# Altium integrated library Xilinx Virtex.IntLib: 240 symbols (part 28 of 35)
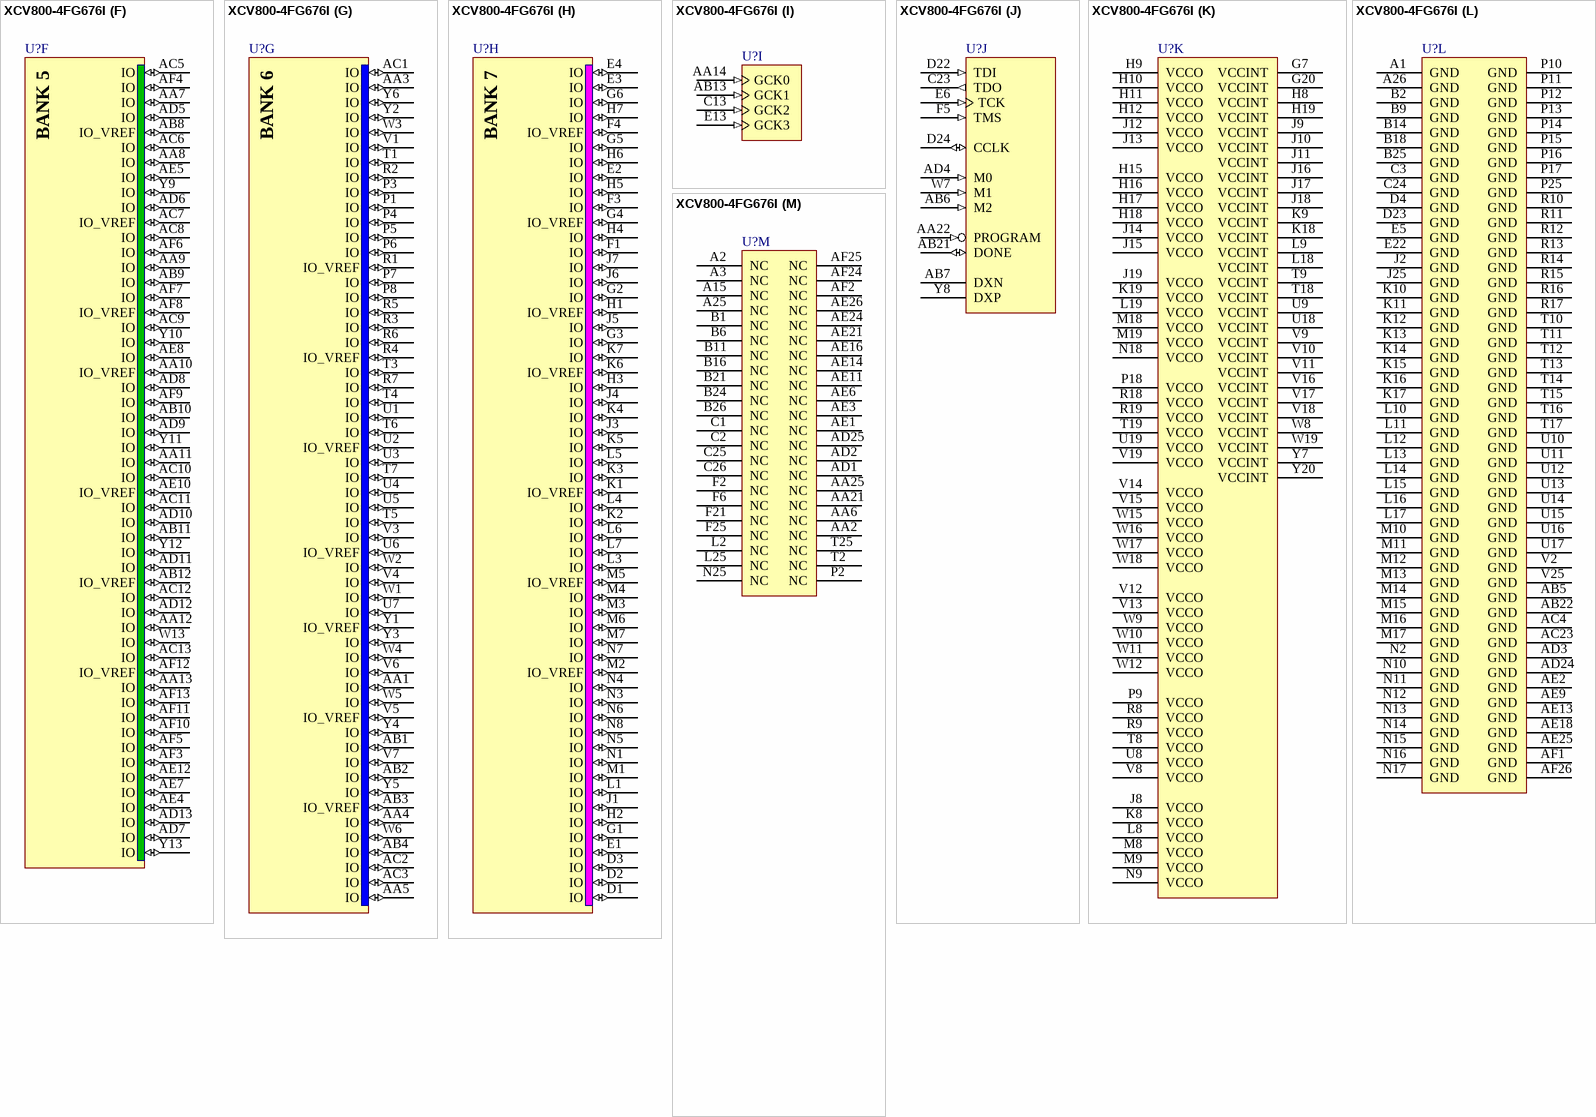
[diagram p248: symbol XCV800-4FG676I]

## XCV800-4FG676I
designator U?
Virtex 2.5V FPGA, 444 User I/Os, 676-Ball FBGA, Speed Grade 4, Industrial Grade; Note: Solder pads are defined by the copper i.e. non-soldermask defined (NSMD); DatasheetVersion: Dec-2002; PackageVersion: ver1.2.1, Apr-2005; PackageReference: FG676; PackageDescription: 676-Ball Fine Pitch Ball Grid Array (FG676); Code_JEDEC: MS-034-AAL-1; Code_IPC: BGA100P26X26-676; ComponentLink1Description: Manufacturer URL; ComponentLink1URL: http://www.xilinx.com/; ComponentLink2Description: Virtex Datasheet; ComponentLink2URL: http://www.xilinx.com/support/documentation/data_sheets/ds003.pdf; ComponentLink3Description: FG676 Package Drawing; ComponentLink3URL: http://www.xilinx.com/support/documentation/package_specs/fg676.pdf; ComponentLink4Description: Virtex Documents; ComponentLink4URL: http://www.xilinx.com/support/documentation/virtex.htm
footprint FG676 (BGA, 676-Leads, Body 27x27mm, Pitch 1mm)
part A pins: A4 IO (io), A5 IO (io), A6 IO (io), A7 IO (io), A8 IO (io), A9 IO (io), A10 IO (io), A11 IO (io), A12 IO_VREF (io), B3 IO (io), B4 IO (io), B5 IO (io), B7 IO_VREF (io), B8 IO (io), B10 IO_VREF (io), B12 IO (io), B13 IO (io), C4 IO (io), C5 IO (io), C6 IO (io), C7 IO (io), C8 IO (io), C9 IO (io), C10 IO (io), C11 IO_VREF (io), C12 IO (io), D5 IO (io), D6 IO_VREF (io), D7 IO (io), D8 IO (io), D9 IO (io), D10 IO (io), D11 IO (io), D12 IO (io), D13 IO (io), E7 IO (io), E8 IO_VREF (io), E9 IO (io), E10 IO (io), E11 IO (io), E12 IO (io), F7 IO (io), F8 IO (io), F9 IO (io), F10 IO (io), F11 IO (io), F12 IO (io), G8 IO (io), G9 IO (io), G10 IO_VREF (io), G11 IO (io), G12 IO (io), G13 IO (io), H13 IO (io)
part B pins: A13 IO (io), A14 IO_VREF (io), A16 IO (io), A17 IO_VREF (io), A18 IO (io), A19 IO (io), A20 IO (io), A21 IO (io), A22 IO (io), A23 IO (io), A24 IO (io), B15 IO (io), B17 IO (io), B19 IO_VREF (io), B20 IO (io), B22 IO (io), B23 IO (io), C14 IO (io), C15 IO (io), C16 IO (io), C17 IO (io), C18 IO (io), C19 IO (io), C20 IO_VREF (io), C21 IO_VREF (io), C22 IO_WRITE (io), D14 IO (io), D15 IO_VREF (io), D16 IO (io), D17 IO (io), D18 IO (io), D19 IO (io), D20 IO (io), D21 IO (io), E14 IO (io), E15 IO (io), E16 IO (io), E17 IO (io), E18 IO (io), E19 IO (io), E20 IO (io), E21 IO_CS (io), F13 IO (io), F14 IO (io), F15 IO (io), F16 IO (io), F17 IO (io), F18 IO (io), F19 IO (io), G14 IO (io), G15 IO (io), G16 IO_VREF (io), G17 IO (io), G18 IO (io), G19 IO (io), H14 IO (io)
part C pins: D25 IO (io), D26 IO (io), E23 IO_DOUT_BUSY (io), E24 IO (io), E25 IO (io), E26 IO (io), F20 IO (io), F22 IO_DIN_D0 (io), F23 IO (io), F24 IO_VREF (io), F26 IO (io), G21 IO (io), G22 IO (io), G23 IO (io), G24 IO (io), G25 IO (io), G26 IO_VREF (io), H20 IO (io), H21 IO (io), H22 IO (io), H23 IO_VREF (io), H24 IO (io), H25 IO (io), H26 IO (io), J20 IO (io), J21 IO (io), J22 IO (io), J23 IO (io), J24 IO (io), J26 IO (io), K20 IO_VREF (io), K21 IO (io), K22 IO_D2 (io), K23 IO (io), K24 IO_D1 (io), K25 IO_VREF (io), K26 IO (io), L20 IO (io), L21 IO (io), L22 IO (io), L23 IO (io), L24 IO (io), L26 IO (io), M20 IO (io), M21 IO (io), M22 IO_D3 (io), M23 IO_VREF (io), M24 IO (io), M25 IO (io), M26 IO_VREF (io), N19 IO (io), N20 IO (io), N21 IO (io), N22 IO (io), N23 IO (io), N24 IO (io), N26 IO (io)
part D pins: AA23 IO (io), AA24 IO (io), AA26 IO (io), AB23 IO_D7 (io), AB24 IO (io), AB25 IO (io), AB26 IO (io), AC24 IO (io), AC25 IO (io), AC26 IO (io), P19 IO (io), P20 IO (io), P21 IO (io), P22 IO (io), P23 IO (io), P24 IO (io), P26 IO (io), R20 IO (io), R21 IO (io), R22 IO (io), R23 IO_VREF (io), R24 IO_D4 (io), R25 IO_VREF (io), R26 IO (io), T20 IO (io), T21 IO (io), T22 IO (io), T23 IO (io), T24 IO (io), T26 IO (io), U20 IO (io), U21 IO_VREF (io), U22 IO (io), U23 IO_D5 (io), U24 IO (io), U25 IO_VREF (io), U26 IO (io), V20 IO (io), V21 IO (io), V22 IO (io), V23 IO (io), V24 IO_D6 (io), V26 IO (io), W20 IO (io), W21 IO (io), W22 IO_VREF (io), W23 IO_VREF (io), W24 IO (io), W25 IO (io), W26 IO_VREF (io), Y21 IO_INIT (io), Y22 IO (io), Y23 IO (io), Y24 IO (io), Y25 IO (io), Y26 IO (io)
part E pins: AA15 IO (io), AA16 IO (io), AA17 IO (io), AA18 IO (io), AA19 IO (io), AA20 IO (io), AB14 IO (io), AB15 IO (io), AB16 IO (io), AB17 IO (io), AB18 IO (io), AB19 IO (io), AB20 IO (io), AC14 IO (io), AC15 IO_VREF (io), AC16 IO (io), AC17 IO (io), AC18 IO (io), AC19 IO (io), AC20 IO (io), AC21 IO (io), AC22 IO (io), AD14 IO (io), AD15 IO (io), AD16 IO (io), AD17 IO (io), AD18 IO_VREF (io), AD19 IO (io), AD20 IO (io), AD21 IO_VREF (io), AD22 IO_VREF (io), AD23 IO (io), AD26 IO (io), AE15 IO (io), AE17 IO (io), AE19 IO (io), AE20 IO (io), AE22 IO (io), AE23 IO (io), AF14 IO (io), AF15 IO_VREF (io), AF16 IO (io), AF17 IO_VREF (io), AF18 IO (io), AF19 IO (io), AF20 IO_VREF (io), AF21 IO (io), AF22 IO (io), AF23 IO (io), W14 IO (io), Y14 IO (io), Y15 IO (io), Y16 IO (io), Y17 IO (io), Y18 IO (io), Y19 IO (io)
part F pins: AA7 IO (io), AA8 IO (io), AA9 IO (io), AA10 IO_VREF (io), AA11 IO (io), AA12 IO (io), AA13 IO (io), AB8 IO_VREF (io), AB9 IO (io), AB10 IO (io), AB11 IO (io), AB12 IO_VREF (io), AC5 IO (io), AC6 IO (io), AC7 IO_VREF (io), AC8 IO (io), AC9 IO (io), AC10 IO (io), AC11 IO (io), AC12 IO (io), AC13 IO (io), AD5 IO (io), AD6 IO (io), AD7 IO (io), AD8 IO (io), AD9 IO (io), AD10 IO (io), AD11 IO (io), AD12 IO (io), AD13 IO (io), AE4 IO (io), AE5 IO (io), AE7 IO (io), AE8 IO (io), AE10 IO_VREF (io), AE12 IO (io), AF3 IO (io), AF4 IO (io), AF5 IO (io), AF6 IO (io), AF7 IO (io), AF8 IO_VREF (io), AF9 IO (io), AF10 IO (io), AF11 IO (io), AF12 IO_VREF (io), AF13 IO (io), W13 IO (io), Y9 IO (io), Y10 IO (io), Y11 IO (io), Y12 IO (io), Y13 IO (io)
part G pins: AA1 IO (io), AA3 IO (io), AA4 IO (io), AA5 IO (io), AB1 IO (io), AB2 IO (io), AB3 IO_VREF (io), AB4 IO (io), AC1 IO (io), AC2 IO (io), AC3 IO (io), P1 IO (io), P3 IO (io), P4 IO (io), P5 IO (io), P6 IO (io), P7 IO (io), P8 IO (io), R1 IO_VREF (io), R2 IO (io), R3 IO (io), R4 IO_VREF (io), R5 IO (io), R6 IO (io), R7 IO (io), T1 IO (io), T3 IO (io), T4 IO (io), T5 IO (io), T6 IO (io), T7 IO (io), U1 IO (io), U2 IO_VREF (io), U3 IO (io), U4 IO (io), U5 IO (io), U6 IO_VREF (io), U7 IO (io), V1 IO (io), V3 IO (io), V4 IO (io), V5 IO_VREF (io), V6 IO (io), V7 IO (io), W1 IO (io), W2 IO (io), W3 IO (io), W4 IO (io), W5 IO (io), W6 IO (io), Y1 IO_VREF (io), Y2 IO (io), Y3 IO (io), Y4 IO (io), Y5 IO (io), Y6 IO (io)
part H pins: D1 IO (io), D2 IO (io), D3 IO (io), E1 IO (io), E2 IO (io), E3 IO (io), E4 IO (io), F1 IO (io), F3 IO (io), F4 IO_VREF (io), G1 IO (io), G2 IO (io), G3 IO (io), G4 IO_VREF (io), G5 IO (io), G6 IO (io), H1 IO_VREF (io), H2 IO (io), H3 IO (io), H4 IO (io), H5 IO (io), H6 IO (io), H7 IO (io), J1 IO (io), J3 IO (io), J4 IO (io), J5 IO (io), J6 IO (io), J7 IO (io), K1 IO_VREF (io), K2 IO (io), K3 IO (io), K4 IO (io), K5 IO (io), K6 IO_VREF (io), K7 IO (io), L1 IO (io), L3 IO (io), L4 IO (io), L5 IO (io), L6 IO (io), L7 IO (io), M1 IO (io), M2 IO_VREF (io), M3 IO (io), M4 IO (io), M5 IO_VREF (io), M6 IO (io), M7 IO (io), N1 IO (io), N3 IO (io), N4 IO (io), N5 IO (io), N6 IO (io), N7 IO (io), N8 IO (io)
part I pins: AA14 GCK0 (in), AB13 GCK1 (in), C13 GCK2 (in), E13 GCK3 (in)
part J pins: AA22 PROGRAM (in), AB6 M2 (in), AB7 DXN, AB21 DONE (io), AD4 M0 (in), C23 TDO (out), D22 TDI (in), D24 CCLK (io), E6 TCK (in), F5 TMS (in), W7 M1 (in), Y8 DXP
part K pins: G7 VCCINT (power), G20 VCCINT (power), H8 VCCINT (power), H9 VCCO (power), H10 VCCO (power), H11 VCCO (power), H12 VCCO (power), H15 VCCO (power), H16 VCCO (power), H17 VCCO (power), H18 VCCO (power), H19 VCCINT (power), J8 VCCO (power), J9 VCCINT (power), J10 VCCINT (power), J11 VCCINT (power), J12 VCCO (power), J13 VCCO (power), J14 VCCO (power), J15 VCCO (power), J16 VCCINT (power), J17 VCCINT (power), J18 VCCINT (power), J19 VCCO (power), K8 VCCO (power), K9 VCCINT (power), K18 VCCINT (power), K19 VCCO (power), L8 VCCO (power), L9 VCCINT (power), L18 VCCINT (power), L19 VCCO (power), M8 VCCO (power), M9 VCCO (power), M18 VCCO (power), M19 VCCO (power), N9 VCCO (power), N18 VCCO (power), P9 VCCO (power), P18 VCCO (power), R8 VCCO (power), R9 VCCO (power), R18 VCCO (power), R19 VCCO (power), T8 VCCO (power), T9 VCCINT (power), T18 VCCINT (power), T19 VCCO (power), U8 VCCO (power), U9 VCCINT (power), U18 VCCINT (power), U19 VCCO (power), V8 VCCO (power), V9 VCCINT (power), V10 VCCINT (power), V11 VCCINT (power), V12 VCCO (power), V13 VCCO (power), V14 VCCO (power), V15 VCCO (power), V16 VCCINT (power), V17 VCCINT (power), V18 VCCINT (power), V19 VCCO (power), W8 VCCINT (power), W9 VCCO (power), W10 VCCO (power), W11 VCCO (power), W12 VCCO (power), W15 VCCO (power), W16 VCCO (power), W17 VCCO (power), W18 VCCO (power), W19 VCCINT (power), Y7 VCCINT (power), Y20 VCCINT (power)
part L pins: A1 GND (power), A26 GND (power), AB5 GND (power), AB22 GND (power), AC4 GND (power), AC23 GND (power), AD3 GND (power), AD24 GND (power), AE2 GND (power), AE9 GND (power), AE13 GND (power), AE18 GND (power), AE25 GND (power), AF1 GND (power), AF26 GND (power), B2 GND (power), B9 GND (power), B14 GND (power), B18 GND (power), B25 GND (power), C3 GND (power), C24 GND (power), D4 GND (power), D23 GND (power), E5 GND (power), E22 GND (power), J2 GND (power), J25 GND (power), K10 GND (power), K11 GND (power), K12 GND (power), K13 GND (power), K14 GND (power), K15 GND (power), K16 GND (power), K17 GND (power), L10 GND (power), L11 GND (power), L12 GND (power), L13 GND (power), L14 GND (power), L15 GND (power), L16 GND (power), L17 GND (power), M10 GND (power), M11 GND (power), M12 GND (power), M13 GND (power), M14 GND (power), M15 GND (power), M16 GND (power), M17 GND (power), N2 GND (power), N10 GND (power), N11 GND (power), N12 GND (power), N13 GND (power), N14 GND (power), N15 GND (power), N16 GND (power), N17 GND (power), P10 GND (power), P11 GND (power), P12 GND (power), P13 GND (power), P14 GND (power), P15 GND (power), P16 GND (power), P17 GND (power), P25 GND (power), R10 GND (power), R11 GND (power), R12 GND (power), R13 GND (power), R14 GND (power), R15 GND (power), R16 GND (power), R17 GND (power), T10 GND (power), T11 GND (power), T12 GND (power), T13 GND (power), T14 GND (power), T15 GND (power), T16 GND (power), T17 GND (power), U10 GND (power), U11 GND (power), U12 GND (power), U13 GND (power), U14 GND (power), U15 GND (power), U16 GND (power), U17 GND (power), V2 GND (power), V25 GND (power)
part M pins: A2 NC, A3 NC, A15 NC, A25 NC, AA2 NC, AA6 NC, AA21 NC, AA25 NC, AD1 NC, AD2 NC, AD25 NC, AE1 NC, AE3 NC, AE6 NC, AE11 NC, AE14 NC, AE16 NC, AE21 NC, AE24 NC, AE26 NC, AF2 NC, AF24 NC, AF25 NC, B1 NC, B6 NC, B11 NC, B16 NC, B21 NC, B24 NC, B26 NC, C1 NC, C2 NC, C25 NC, C26 NC, F2 NC, F6 NC, F21 NC, F25 NC, L2 NC, L25 NC, N25 NC, P2 NC, T2 NC, T25 NC
part A text: BANK 0
part B text: BANK 1
part C text: BANK 2
part D text: BANK 3
part E text: BANK 4
part F text: BANK 5
part G text: BANK 6
part H text: BANK 7

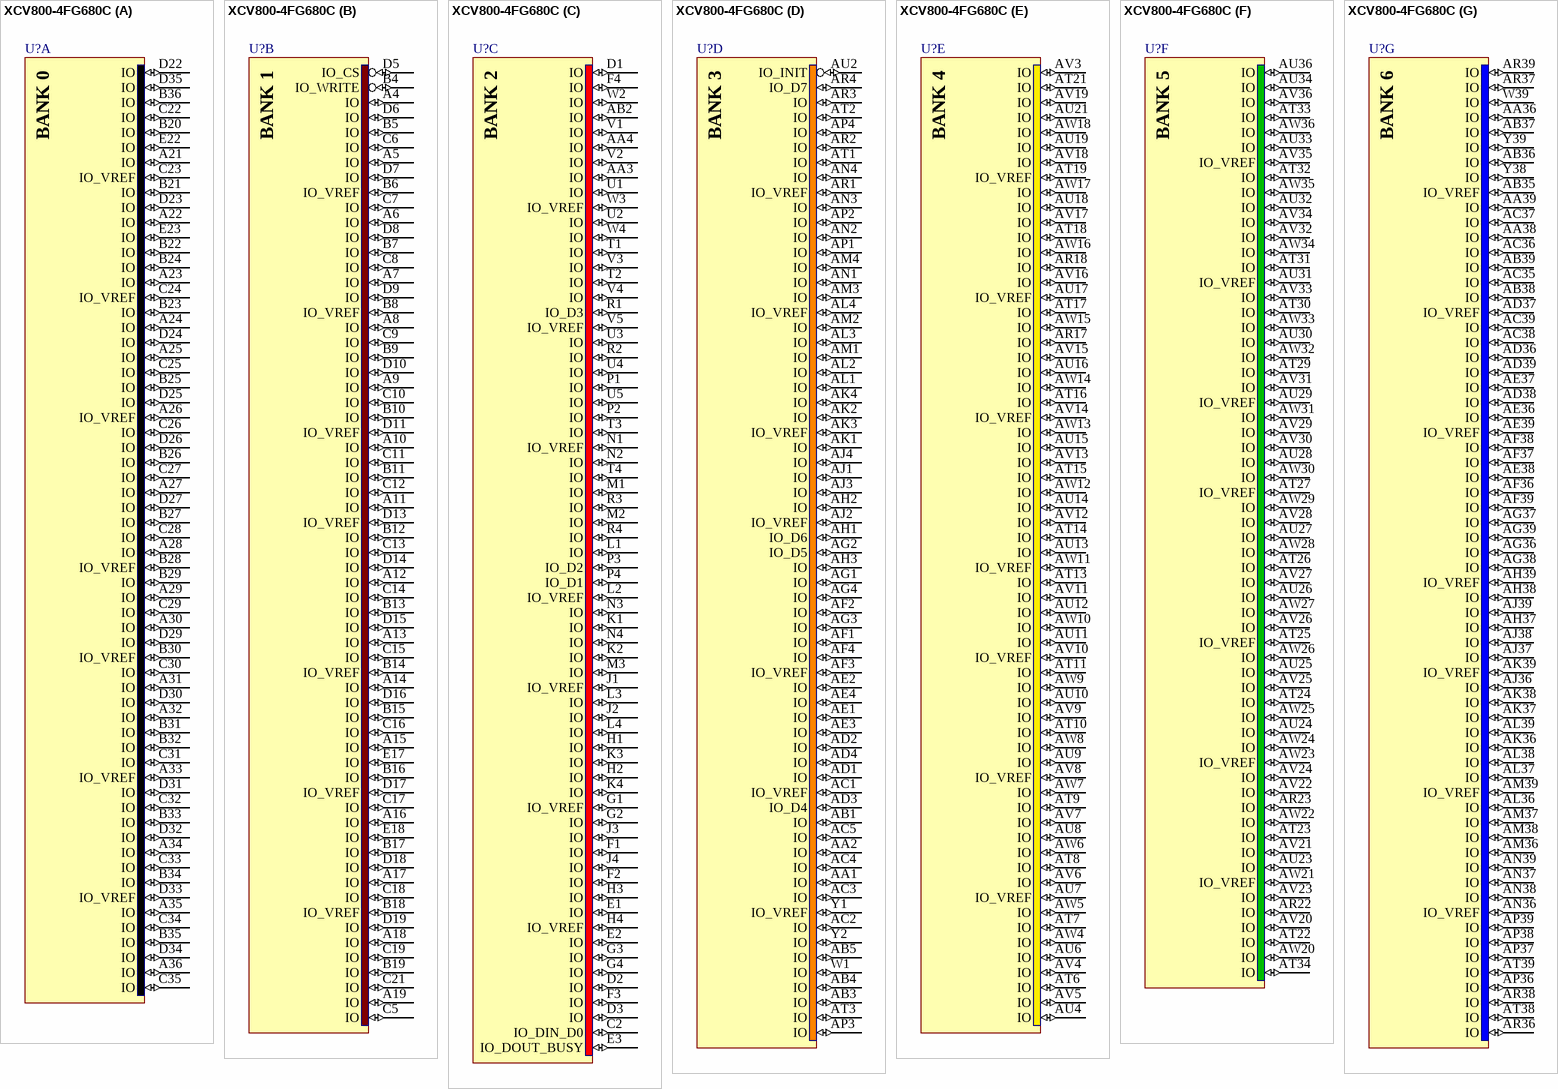
[diagram p170: symbol XCV800-4FG680C]

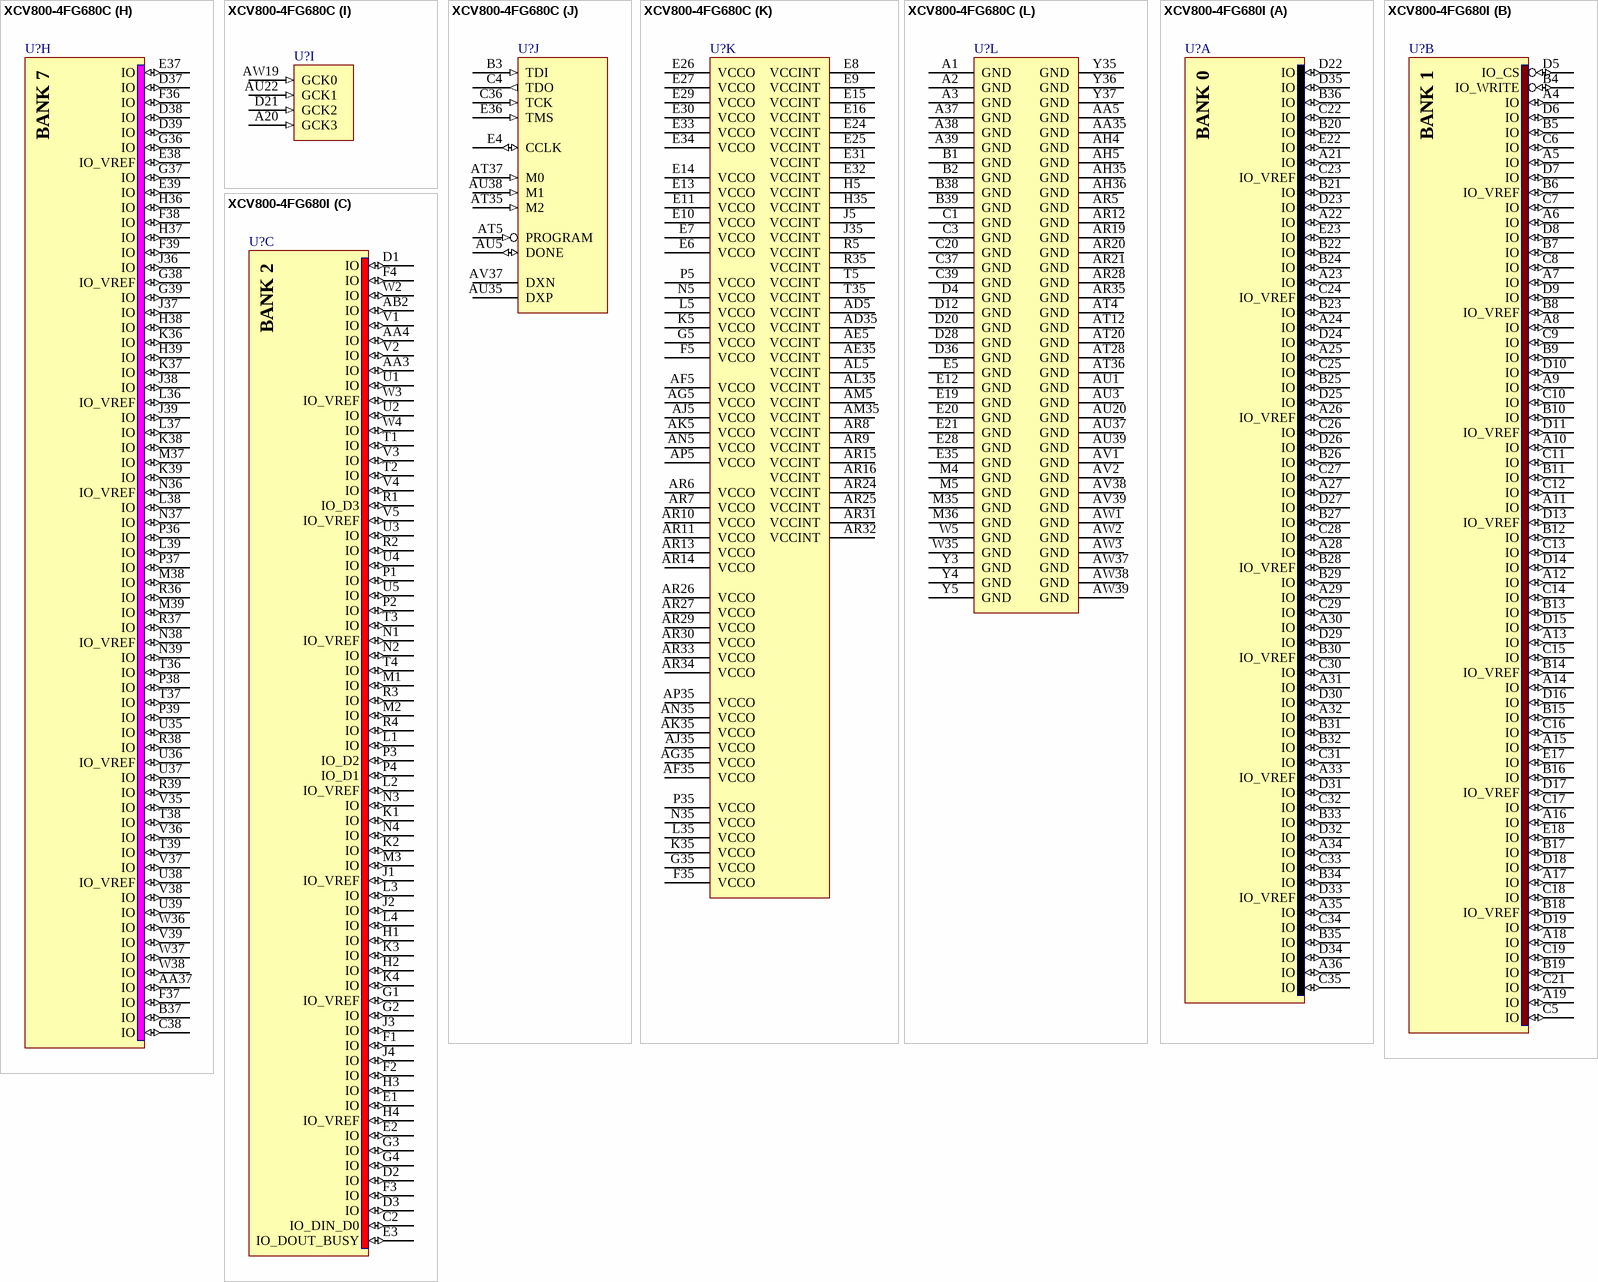
[diagram p171: symbols XCV800-4FG680C to XCV800-4FG680I]

## XCV800-4FG680C
designator U?
Virtex 2.5V FPGA, 512 User I/Os, 680-Ball FBGA, Speed Grade 4, Commercial Grade; Note: Solder pads are defined by the copper i.e. non-soldermask defined (NSMD); DatasheetVersion: Dec-2002; PackageVersion: ver1.2.1, Apr-2005; PackageReference: FG680; PackageDescription: 680-Ball Fine Pitch Ball Grid Array (FG680); Code_JEDEC: MO-192-AAU-1 (Depopulated); ComponentLink1Description: Manufacturer URL; ComponentLink1URL: http://www.xilinx.com/; ComponentLink2Description: Virtex Datasheet; ComponentLink2URL: http://www.xilinx.com/support/documentation/data_sheets/ds003.pdf; ComponentLink3Description: FG680 Package Drawing; ComponentLink3URL: http://www.xilinx.com/support/documentation/package_specs/fg680.pdf; ComponentLink4Description: Virtex Documents; ComponentLink4URL: http://www.xilinx.com/support/documentation/virtex.htm
footprint FG680 (BGA, 680-Leads, Body 40x40mm, Pitch 1mm)
part A pins: A21 IO (io), A22 IO (io), A23 IO (io), A24 IO (io), A25 IO (io), A26 IO_VREF (io), A27 IO (io), A28 IO (io), A29 IO (io), A30 IO (io), A31 IO (io), A32 IO (io), A33 IO_VREF (io), A34 IO (io), A35 IO (io), A36 IO (io), B20 IO (io), B21 IO (io), B22 IO (io), B23 IO (io), B24 IO (io), B25 IO (io), B26 IO (io), B27 IO (io), B28 IO_VREF (io), B29 IO (io), B30 IO_VREF (io), B31 IO (io), B32 IO (io), B33 IO (io), B34 IO (io), B35 IO (io), B36 IO (io), C22 IO (io), C23 IO_VREF (io), C24 IO_VREF (io), C25 IO (io), C26 IO (io), C27 IO (io), C28 IO (io), C29 IO (io), C30 IO (io), C31 IO (io), C32 IO (io), C33 IO (io), C34 IO (io), C35 IO (io), D22 IO (io), D23 IO (io), D24 IO (io), D25 IO (io), D26 IO (io), D27 IO (io), D29 IO (io), D30 IO (io), D31 IO (io), D32 IO (io), D33 IO_VREF (io), D34 IO (io), D35 IO (io), E22 IO (io), E23 IO (io)
part B pins: A4 IO (io), A5 IO (io), A6 IO (io), A7 IO (io), A8 IO (io), A9 IO (io), A10 IO (io), A11 IO (io), A12 IO (io), A13 IO (io), A14 IO (io), A15 IO (io), A16 IO (io), A17 IO (io), A18 IO (io), A19 IO (io), B4 IO_WRITE (io), B5 IO (io), B6 IO_VREF (io), B7 IO (io), B8 IO_VREF (io), B9 IO (io), B10 IO (io), B11 IO (io), B12 IO (io), B13 IO (io), B14 IO_VREF (io), B15 IO (io), B16 IO (io), B17 IO (io), B18 IO_VREF (io), B19 IO (io), C5 IO (io), C6 IO (io), C7 IO (io), C8 IO (io), C9 IO (io), C10 IO (io), C11 IO (io), C12 IO (io), C13 IO (io), C14 IO (io), C15 IO (io), C16 IO (io), C17 IO (io), C18 IO (io), C19 IO (io), C21 IO (io), D5 IO_CS (io), D6 IO (io), D7 IO (io), D8 IO (io), D9 IO (io), D10 IO (io), D11 IO_VREF (io), D13 IO_VREF (io), D14 IO (io), D15 IO (io), D16 IO (io), D17 IO_VREF (io), D18 IO (io), D19 IO (io), E17 IO (io), E18 IO (io)
part C pins: AA3 IO (io), AA4 IO (io), AB2 IO (io), C2 IO_DIN_D0 (io), D1 IO (io), D2 IO (io), D3 IO (io), E1 IO (io), E2 IO (io), E3 IO_DOUT_BUSY (io), F1 IO (io), F2 IO (io), F3 IO (io), F4 IO (io), G1 IO_VREF (io), G2 IO (io), G3 IO (io), G4 IO (io), H1 IO (io), H2 IO (io), H3 IO (io), H4 IO_VREF (io), J1 IO_VREF (io), J2 IO (io), J3 IO (io), J4 IO (io), K1 IO (io), K2 IO (io), K3 IO (io), K4 IO (io), L1 IO (io), L2 IO_VREF (io), L3 IO (io), L4 IO (io), M1 IO (io), M2 IO (io), M3 IO (io), N1 IO_VREF (io), N2 IO (io), N3 IO (io), N4 IO (io), P1 IO (io), P2 IO (io), P3 IO_D2 (io), P4 IO_D1 (io), R1 IO_D3 (io), R2 IO (io), R3 IO (io), R4 IO (io), T1 IO (io), T2 IO (io), T3 IO (io), T4 IO (io), U1 IO (io), U2 IO (io), U3 IO (io), U4 IO (io), U5 IO (io), V1 IO (io), V2 IO (io), V3 IO (io), V4 IO (io), V5 IO_VREF (io), W2 IO (io), W3 IO_VREF (io), W4 IO (io)
part D pins: AA1 IO (io), AA2 IO (io), AB1 IO (io), AB3 IO (io), AB4 IO (io), AB5 IO (io), AC1 IO_VREF (io), AC2 IO (io), AC3 IO (io), AC4 IO (io), AC5 IO (io), AD1 IO (io), AD2 IO (io), AD3 IO_D4 (io), AD4 IO (io), AE1 IO (io), AE2 IO (io), AE3 IO (io), AE4 IO (io), AF1 IO (io), AF2 IO (io), AF3 IO_VREF (io), AF4 IO (io), AG1 IO (io), AG2 IO_D5 (io), AG3 IO (io), AG4 IO (io), AH1 IO_D6 (io), AH2 IO (io), AH3 IO (io), AJ1 IO (io), AJ2 IO_VREF (io), AJ3 IO (io), AJ4 IO (io), AK1 IO (io), AK2 IO (io), AK3 IO_VREF (io), AK4 IO (io), AL1 IO (io), AL2 IO (io), AL3 IO (io), AL4 IO_VREF (io), AM1 IO (io), AM2 IO (io), AM3 IO (io), AM4 IO (io), AN1 IO (io), AN2 IO (io), AN3 IO (io), AN4 IO (io), AP1 IO (io), AP2 IO (io), AP3 IO (io), AP4 IO (io), AR1 IO_VREF (io), AR2 IO (io), AR3 IO (io), AR4 IO_D7 (io), AT1 IO (io), AT2 IO (io), AT3 IO (io), AU2 IO_INIT (io), W1 IO (io), Y1 IO_VREF (io), Y2 IO (io)
part E pins: AR17 IO (io), AR18 IO (io), AT6 IO (io), AT7 IO (io), AT8 IO (io), AT9 IO (io), AT10 IO (io), AT11 IO (io), AT13 IO (io), AT14 IO (io), AT15 IO (io), AT16 IO (io), AT17 IO (io), AT18 IO (io), AT19 IO_VREF (io), AT21 IO (io), AU4 IO (io), AU6 IO (io), AU7 IO_VREF (io), AU8 IO (io), AU9 IO (io), AU10 IO (io), AU11 IO (io), AU12 IO (io), AU13 IO (io), AU14 IO (io), AU15 IO (io), AU16 IO (io), AU17 IO_VREF (io), AU18 IO (io), AU19 IO (io), AU21 IO (io), AV3 IO (io), AV4 IO (io), AV5 IO (io), AV6 IO (io), AV7 IO (io), AV8 IO_VREF (io), AV9 IO (io), AV10 IO_VREF (io), AV11 IO (io), AV12 IO (io), AV13 IO (io), AV14 IO_VREF (io), AV15 IO (io), AV16 IO (io), AV17 IO (io), AV18 IO (io), AV19 IO (io), AW4 IO (io), AW5 IO (io), AW6 IO (io), AW7 IO (io), AW8 IO (io), AW9 IO (io), AW10 IO (io), AW11 IO_VREF (io), AW12 IO (io), AW13 IO (io), AW14 IO (io), AW15 IO (io), AW16 IO (io), AW17 IO (io), AW18 IO (io)
part F pins: AR22 IO (io), AR23 IO (io), AT22 IO (io), AT23 IO (io), AT24 IO (io), AT25 IO_VREF (io), AT26 IO (io), AT27 IO_VREF (io), AT29 IO (io), AT30 IO (io), AT31 IO (io), AT32 IO (io), AT33 IO (io), AT34 IO (io), AU23 IO (io), AU24 IO (io), AU25 IO (io), AU26 IO (io), AU27 IO (io), AU28 IO (io), AU29 IO_VREF (io), AU30 IO (io), AU31 IO_VREF (io), AU32 IO (io), AU33 IO (io), AU34 IO (io), AU36 IO (io), AV20 IO (io), AV21 IO (io), AV22 IO (io), AV23 IO (io), AV24 IO (io), AV25 IO (io), AV26 IO (io), AV27 IO (io), AV28 IO (io), AV29 IO (io), AV30 IO (io), AV31 IO (io), AV32 IO (io), AV33 IO (io), AV34 IO (io), AV35 IO_VREF (io), AV36 IO (io), AW20 IO (io), AW21 IO_VREF (io), AW22 IO (io), AW23 IO_VREF (io), AW24 IO (io), AW25 IO (io), AW26 IO (io), AW27 IO (io), AW28 IO (io), AW29 IO (io), AW30 IO (io), AW31 IO (io), AW32 IO (io), AW33 IO (io), AW34 IO (io), AW35 IO (io), AW36 IO (io)
part G pins: AA36 IO (io), AA38 IO (io), AA39 IO (io), AB35 IO_VREF (io), AB36 IO (io), AB37 IO (io), AB38 IO (io), AB39 IO (io), AC35 IO (io), AC36 IO (io), AC37 IO (io), AC38 IO (io), AC39 IO (io), AD36 IO (io), AD37 IO_VREF (io), AD38 IO (io), AD39 IO (io), AE36 IO (io), AE37 IO (io), AE38 IO (io), AE39 IO_VREF (io), AF36 IO (io), AF37 IO (io), AF38 IO (io), AF39 IO (io), AG36 IO (io), AG37 IO (io), AG38 IO (io), AG39 IO (io), AH37 IO (io), AH38 IO (io), AH39 IO_VREF (io), AJ36 IO (io), AJ37 IO (io), AJ38 IO (io), AJ39 IO (io), AK36 IO (io), AK37 IO (io), AK38 IO (io), AK39 IO_VREF (io), AL36 IO (io), AL37 IO (io), AL38 IO (io), AL39 IO (io), AM36 IO (io), AM37 IO (io), AM38 IO (io), AM39 IO_VREF (io), AN36 IO_VREF (io), AN37 IO (io), AN38 IO (io), AN39 IO (io), AP36 IO (io), AP37 IO (io), AP38 IO (io), AP39 IO (io), AR36 IO (io), AR37 IO (io), AR38 IO (io), AR39 IO (io), AT38 IO (io), AT39 IO (io), W39 IO (io), Y38 IO (io), Y39 IO (io)
part H pins: AA37 IO (io), B37 IO (io), C38 IO (io), D37 IO (io), D38 IO (io), D39 IO (io), E37 IO (io), E38 IO_VREF (io), E39 IO (io), F36 IO (io), F37 IO (io), F38 IO (io), F39 IO (io), G36 IO (io), G37 IO (io), G38 IO_VREF (io), G39 IO (io), H36 IO (io), H37 IO (io), H38 IO (io), H39 IO (io), J36 IO (io), J37 IO (io), J38 IO (io), J39 IO (io), K36 IO (io), K37 IO (io), K38 IO (io), K39 IO (io), L36 IO_VREF (io), L37 IO (io), L38 IO (io), L39 IO (io), M37 IO (io), M38 IO (io), M39 IO (io), N36 IO_VREF (io), N37 IO (io), N38 IO_VREF (io), N39 IO (io), P36 IO (io), P37 IO (io), P38 IO (io), P39 IO (io), R36 IO (io), R37 IO (io), R38 IO (io), R39 IO (io), T36 IO (io), T37 IO (io), T38 IO (io), T39 IO (io), U35 IO (io), U36 IO_VREF (io), U37 IO (io), U38 IO_VREF (io), U39 IO (io), V35 IO (io), V36 IO (io), V37 IO (io), V38 IO (io), V39 IO (io), W36 IO (io), W37 IO (io), W38 IO (io)
part I pins: A20 GCK3 (in), AU22 GCK1 (in), AW19 GCK0 (in), D21 GCK2 (in)
part J pins: AT5 PROGRAM (in), AT35 M2 (in), AT37 M0 (in), AU5 DONE (io), AU35 DXP, AU38 M1 (in), AV37 DXN, B3 TDI (in), C4 TDO (out), C36 TCK (in), E4 CCLK (io), E36 TMS (in)
part K pins: AD5 VCCINT (power), AD35 VCCINT (power), AE5 VCCINT (power), AE35 VCCINT (power), AF5 VCCO (power), AF35 VCCO (power), AG5 VCCO (power), AG35 VCCO (power), AJ5 VCCO (power), AJ35 VCCO (power), AK5 VCCO (power), AK35 VCCO (power), AL5 VCCINT (power), AL35 VCCINT (power), AM5 VCCINT (power), AM35 VCCINT (power), AN5 VCCO (power), AN35 VCCO (power), AP5 VCCO (power), AP35 VCCO (power), AR6 VCCO (power), AR7 VCCO (power), AR8 VCCINT (power), AR9 VCCINT (power), AR10 VCCO (power), AR11 VCCO (power), AR13 VCCO (power), AR14 VCCO (power), AR15 VCCINT (power), AR16 VCCINT (power), AR24 VCCINT (power), AR25 VCCINT (power), AR26 VCCO (power), AR27 VCCO (power), AR29 VCCO (power), AR30 VCCO (power), AR31 VCCINT (power), AR32 VCCINT (power), AR33 VCCO (power), AR34 VCCO (power), E6 VCCO (power), E7 VCCO (power), E8 VCCINT (power), E9 VCCINT (power), E10 VCCO (power), E11 VCCO (power), E13 VCCO (power), E14 VCCO (power), E15 VCCINT (power), E16 VCCINT (power), E24 VCCINT (power), E25 VCCINT (power), E26 VCCO (power), E27 VCCO (power), E29 VCCO (power), E30 VCCO (power), E31 VCCINT (power), E32 VCCINT (power), E33 VCCO (power), E34 VCCO (power), F5 VCCO (power), F35 VCCO (power), G5 VCCO (power), G35 VCCO (power), H5 VCCINT (power), H35 VCCINT (power), J5 VCCINT (power), J35 VCCINT (power), K5 VCCO (power), K35 VCCO (power), L5 VCCO (power), L35 VCCO (power), N5 VCCO (power), N35 VCCO (power), P5 VCCO (power), P35 VCCO (power), R5 VCCINT (power), R35 VCCINT (power), T5 VCCINT (power), T35 VCCINT (power)
part L pins: A1 GND (power), A2 GND (power), A3 GND (power), A37 GND (power), A38 GND (power), A39 GND (power), AA5 GND (power), AA35 GND (power), AH4 GND (power), AH5 GND (power), AH35 GND (power), AH36 GND (power), AR5 GND (power), AR12 GND (power), AR19 GND (power), AR20 GND (power), AR21 GND (power), AR28 GND (power), AR35 GND (power), AT4 GND (power), AT12 GND (power), AT20 GND (power), AT28 GND (power), AT36 GND (power), AU1 GND (power), AU3 GND (power), AU20 GND (power), AU37 GND (power), AU39 GND (power), AV1 GND (power), AV2 GND (power), AV38 GND (power), AV39 GND (power), AW1 GND (power), AW2 GND (power), AW3 GND (power), AW37 GND (power), AW38 GND (power), AW39 GND (power), B1 GND (power), B2 GND (power), B38 GND (power), B39 GND (power), C1 GND (power), C3 GND (power), C20 GND (power), C37 GND (power), C39 GND (power), D4 GND (power), D12 GND (power), D20 GND (power), D28 GND (power), D36 GND (power), E5 GND (power), E12 GND (power), E19 GND (power), E20 GND (power), E21 GND (power), E28 GND (power), E35 GND (power), M4 GND (power), M5 GND (power), M35 GND (power), M36 GND (power), W5 GND (power), W35 GND (power), Y3 GND (power), Y4 GND (power), Y5 GND (power), Y35 GND (power), Y36 GND (power), Y37 GND (power)
part A text: BANK 0
part B text: BANK 1
part C text: BANK 2
part D text: BANK 3
part E text: BANK 4
part F text: BANK 5
part G text: BANK 6
part H text: BANK 7

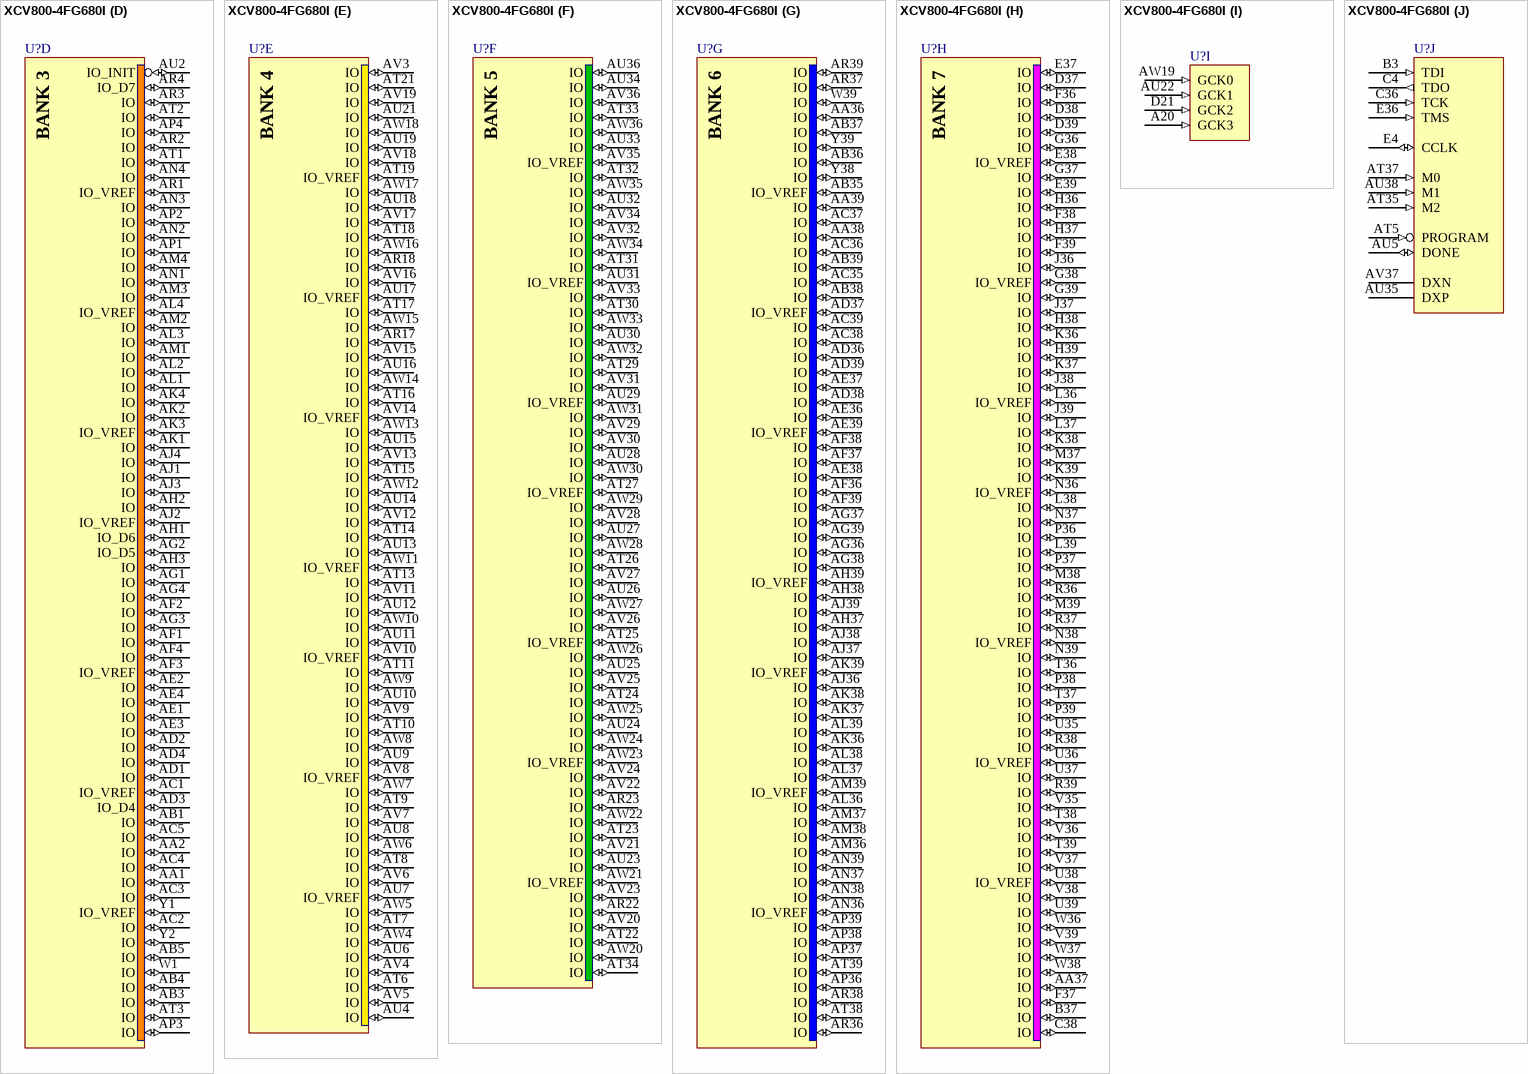
[diagram p172: symbol XCV800-4FG680I]

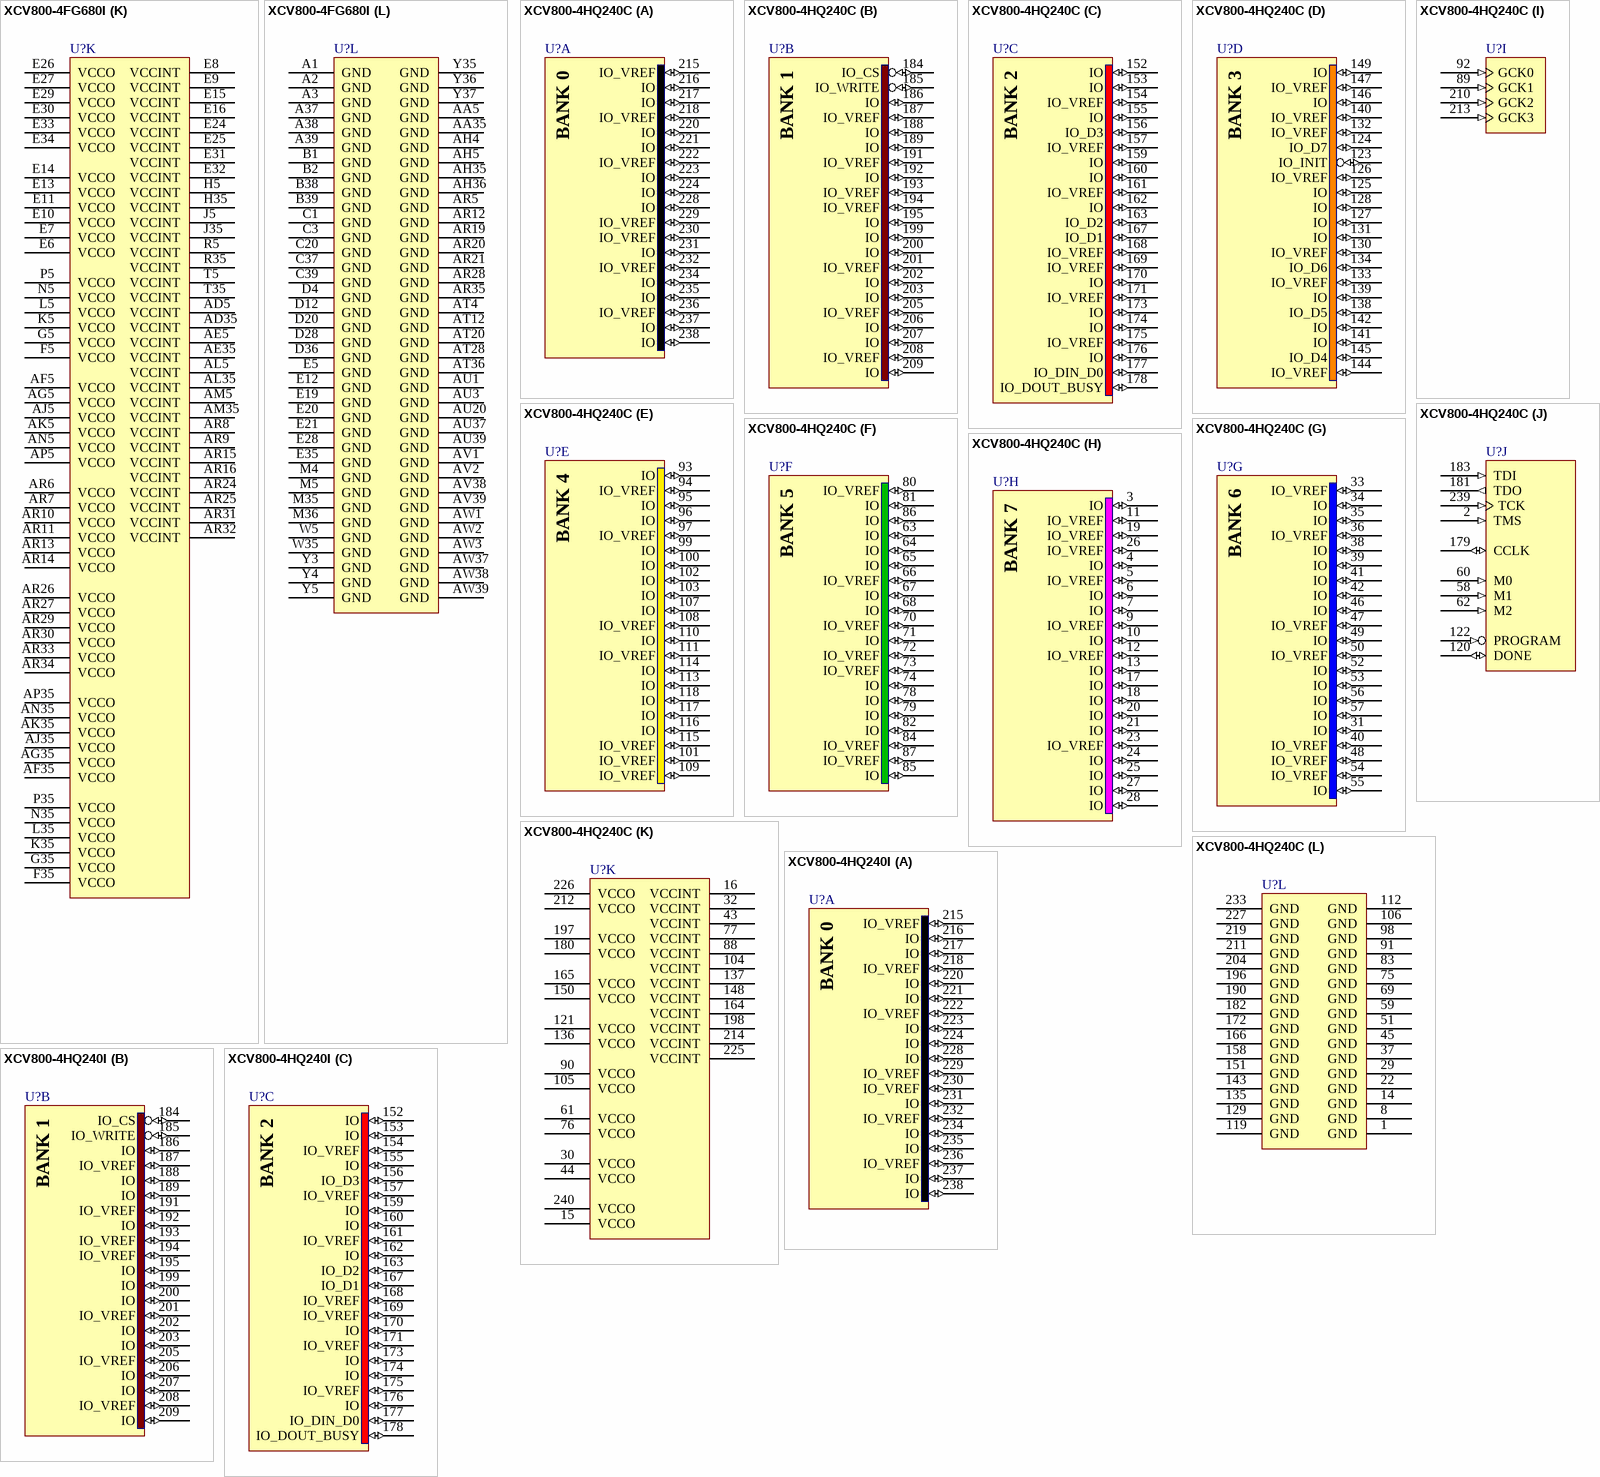
[diagram p173: symbols XCV800-4FG680I to XCV800-4HQ240I]

## XCV800-4FG680I
designator U?
Virtex 2.5V FPGA, 512 User I/Os, 680-Ball FBGA, Speed Grade 4, Industrial Grade; Note: Solder pads are defined by the copper i.e. non-soldermask defined (NSMD); DatasheetVersion: Dec-2002; PackageVersion: ver1.2.1, Apr-2005; PackageReference: FG680; PackageDescription: 680-Ball Fine Pitch Ball Grid Array (FG680); Code_JEDEC: MO-192-AAU-1 (Depopulated); ComponentLink1Description: Manufacturer URL; ComponentLink1URL: http://www.xilinx.com/; ComponentLink2Description: Virtex Datasheet; ComponentLink2URL: http://www.xilinx.com/support/documentation/data_sheets/ds003.pdf; ComponentLink3Description: FG680 Package Drawing; ComponentLink3URL: http://www.xilinx.com/support/documentation/package_specs/fg680.pdf; ComponentLink4Description: Virtex Documents; ComponentLink4URL: http://www.xilinx.com/support/documentation/virtex.htm
footprint FG680 (BGA, 680-Leads, Body 40x40mm, Pitch 1mm)
part A pins: A21 IO (io), A22 IO (io), A23 IO (io), A24 IO (io), A25 IO (io), A26 IO_VREF (io), A27 IO (io), A28 IO (io), A29 IO (io), A30 IO (io), A31 IO (io), A32 IO (io), A33 IO_VREF (io), A34 IO (io), A35 IO (io), A36 IO (io), B20 IO (io), B21 IO (io), B22 IO (io), B23 IO (io), B24 IO (io), B25 IO (io), B26 IO (io), B27 IO (io), B28 IO_VREF (io), B29 IO (io), B30 IO_VREF (io), B31 IO (io), B32 IO (io), B33 IO (io), B34 IO (io), B35 IO (io), B36 IO (io), C22 IO (io), C23 IO_VREF (io), C24 IO_VREF (io), C25 IO (io), C26 IO (io), C27 IO (io), C28 IO (io), C29 IO (io), C30 IO (io), C31 IO (io), C32 IO (io), C33 IO (io), C34 IO (io), C35 IO (io), D22 IO (io), D23 IO (io), D24 IO (io), D25 IO (io), D26 IO (io), D27 IO (io), D29 IO (io), D30 IO (io), D31 IO (io), D32 IO (io), D33 IO_VREF (io), D34 IO (io), D35 IO (io), E22 IO (io), E23 IO (io)
part B pins: A4 IO (io), A5 IO (io), A6 IO (io), A7 IO (io), A8 IO (io), A9 IO (io), A10 IO (io), A11 IO (io), A12 IO (io), A13 IO (io), A14 IO (io), A15 IO (io), A16 IO (io), A17 IO (io), A18 IO (io), A19 IO (io), B4 IO_WRITE (io), B5 IO (io), B6 IO_VREF (io), B7 IO (io), B8 IO_VREF (io), B9 IO (io), B10 IO (io), B11 IO (io), B12 IO (io), B13 IO (io), B14 IO_VREF (io), B15 IO (io), B16 IO (io), B17 IO (io), B18 IO_VREF (io), B19 IO (io), C5 IO (io), C6 IO (io), C7 IO (io), C8 IO (io), C9 IO (io), C10 IO (io), C11 IO (io), C12 IO (io), C13 IO (io), C14 IO (io), C15 IO (io), C16 IO (io), C17 IO (io), C18 IO (io), C19 IO (io), C21 IO (io), D5 IO_CS (io), D6 IO (io), D7 IO (io), D8 IO (io), D9 IO (io), D10 IO (io), D11 IO_VREF (io), D13 IO_VREF (io), D14 IO (io), D15 IO (io), D16 IO (io), D17 IO_VREF (io), D18 IO (io), D19 IO (io), E17 IO (io), E18 IO (io)
part C pins: AA3 IO (io), AA4 IO (io), AB2 IO (io), C2 IO_DIN_D0 (io), D1 IO (io), D2 IO (io), D3 IO (io), E1 IO (io), E2 IO (io), E3 IO_DOUT_BUSY (io), F1 IO (io), F2 IO (io), F3 IO (io), F4 IO (io), G1 IO_VREF (io), G2 IO (io), G3 IO (io), G4 IO (io), H1 IO (io), H2 IO (io), H3 IO (io), H4 IO_VREF (io), J1 IO_VREF (io), J2 IO (io), J3 IO (io), J4 IO (io), K1 IO (io), K2 IO (io), K3 IO (io), K4 IO (io), L1 IO (io), L2 IO_VREF (io), L3 IO (io), L4 IO (io), M1 IO (io), M2 IO (io), M3 IO (io), N1 IO_VREF (io), N2 IO (io), N3 IO (io), N4 IO (io), P1 IO (io), P2 IO (io), P3 IO_D2 (io), P4 IO_D1 (io), R1 IO_D3 (io), R2 IO (io), R3 IO (io), R4 IO (io), T1 IO (io), T2 IO (io), T3 IO (io), T4 IO (io), U1 IO (io), U2 IO (io), U3 IO (io), U4 IO (io), U5 IO (io), V1 IO (io), V2 IO (io), V3 IO (io), V4 IO (io), V5 IO_VREF (io), W2 IO (io), W3 IO_VREF (io), W4 IO (io)
part D pins: AA1 IO (io), AA2 IO (io), AB1 IO (io), AB3 IO (io), AB4 IO (io), AB5 IO (io), AC1 IO_VREF (io), AC2 IO (io), AC3 IO (io), AC4 IO (io), AC5 IO (io), AD1 IO (io), AD2 IO (io), AD3 IO_D4 (io), AD4 IO (io), AE1 IO (io), AE2 IO (io), AE3 IO (io), AE4 IO (io), AF1 IO (io), AF2 IO (io), AF3 IO_VREF (io), AF4 IO (io), AG1 IO (io), AG2 IO_D5 (io), AG3 IO (io), AG4 IO (io), AH1 IO_D6 (io), AH2 IO (io), AH3 IO (io), AJ1 IO (io), AJ2 IO_VREF (io), AJ3 IO (io), AJ4 IO (io), AK1 IO (io), AK2 IO (io), AK3 IO_VREF (io), AK4 IO (io), AL1 IO (io), AL2 IO (io), AL3 IO (io), AL4 IO_VREF (io), AM1 IO (io), AM2 IO (io), AM3 IO (io), AM4 IO (io), AN1 IO (io), AN2 IO (io), AN3 IO (io), AN4 IO (io), AP1 IO (io), AP2 IO (io), AP3 IO (io), AP4 IO (io), AR1 IO_VREF (io), AR2 IO (io), AR3 IO (io), AR4 IO_D7 (io), AT1 IO (io), AT2 IO (io), AT3 IO (io), AU2 IO_INIT (io), W1 IO (io), Y1 IO_VREF (io), Y2 IO (io)
part E pins: AR17 IO (io), AR18 IO (io), AT6 IO (io), AT7 IO (io), AT8 IO (io), AT9 IO (io), AT10 IO (io), AT11 IO (io), AT13 IO (io), AT14 IO (io), AT15 IO (io), AT16 IO (io), AT17 IO (io), AT18 IO (io), AT19 IO_VREF (io), AT21 IO (io), AU4 IO (io), AU6 IO (io), AU7 IO_VREF (io), AU8 IO (io), AU9 IO (io), AU10 IO (io), AU11 IO (io), AU12 IO (io), AU13 IO (io), AU14 IO (io), AU15 IO (io), AU16 IO (io), AU17 IO_VREF (io), AU18 IO (io), AU19 IO (io), AU21 IO (io), AV3 IO (io), AV4 IO (io), AV5 IO (io), AV6 IO (io), AV7 IO (io), AV8 IO_VREF (io), AV9 IO (io), AV10 IO_VREF (io), AV11 IO (io), AV12 IO (io), AV13 IO (io), AV14 IO_VREF (io), AV15 IO (io), AV16 IO (io), AV17 IO (io), AV18 IO (io), AV19 IO (io), AW4 IO (io), AW5 IO (io), AW6 IO (io), AW7 IO (io), AW8 IO (io), AW9 IO (io), AW10 IO (io), AW11 IO_VREF (io), AW12 IO (io), AW13 IO (io), AW14 IO (io), AW15 IO (io), AW16 IO (io), AW17 IO (io), AW18 IO (io)
part F pins: AR22 IO (io), AR23 IO (io), AT22 IO (io), AT23 IO (io), AT24 IO (io), AT25 IO_VREF (io), AT26 IO (io), AT27 IO_VREF (io), AT29 IO (io), AT30 IO (io), AT31 IO (io), AT32 IO (io), AT33 IO (io), AT34 IO (io), AU23 IO (io), AU24 IO (io), AU25 IO (io), AU26 IO (io), AU27 IO (io), AU28 IO (io), AU29 IO_VREF (io), AU30 IO (io), AU31 IO_VREF (io), AU32 IO (io), AU33 IO (io), AU34 IO (io), AU36 IO (io), AV20 IO (io), AV21 IO (io), AV22 IO (io), AV23 IO (io), AV24 IO (io), AV25 IO (io), AV26 IO (io), AV27 IO (io), AV28 IO (io), AV29 IO (io), AV30 IO (io), AV31 IO (io), AV32 IO (io), AV33 IO (io), AV34 IO (io), AV35 IO_VREF (io), AV36 IO (io), AW20 IO (io), AW21 IO_VREF (io), AW22 IO (io), AW23 IO_VREF (io), AW24 IO (io), AW25 IO (io), AW26 IO (io), AW27 IO (io), AW28 IO (io), AW29 IO (io), AW30 IO (io), AW31 IO (io), AW32 IO (io), AW33 IO (io), AW34 IO (io), AW35 IO (io), AW36 IO (io)
part G pins: AA36 IO (io), AA38 IO (io), AA39 IO (io), AB35 IO_VREF (io), AB36 IO (io), AB37 IO (io), AB38 IO (io), AB39 IO (io), AC35 IO (io), AC36 IO (io), AC37 IO (io), AC38 IO (io), AC39 IO (io), AD36 IO (io), AD37 IO_VREF (io), AD38 IO (io), AD39 IO (io), AE36 IO (io), AE37 IO (io), AE38 IO (io), AE39 IO_VREF (io), AF36 IO (io), AF37 IO (io), AF38 IO (io), AF39 IO (io), AG36 IO (io), AG37 IO (io), AG38 IO (io), AG39 IO (io), AH37 IO (io), AH38 IO (io), AH39 IO_VREF (io), AJ36 IO (io), AJ37 IO (io), AJ38 IO (io), AJ39 IO (io), AK36 IO (io), AK37 IO (io), AK38 IO (io), AK39 IO_VREF (io), AL36 IO (io), AL37 IO (io), AL38 IO (io), AL39 IO (io), AM36 IO (io), AM37 IO (io), AM38 IO (io), AM39 IO_VREF (io), AN36 IO_VREF (io), AN37 IO (io), AN38 IO (io), AN39 IO (io), AP36 IO (io), AP37 IO (io), AP38 IO (io), AP39 IO (io), AR36 IO (io), AR37 IO (io), AR38 IO (io), AR39 IO (io), AT38 IO (io), AT39 IO (io), W39 IO (io), Y38 IO (io), Y39 IO (io)
part H pins: AA37 IO (io), B37 IO (io), C38 IO (io), D37 IO (io), D38 IO (io), D39 IO (io), E37 IO (io), E38 IO_VREF (io), E39 IO (io), F36 IO (io), F37 IO (io), F38 IO (io), F39 IO (io), G36 IO (io), G37 IO (io), G38 IO_VREF (io), G39 IO (io), H36 IO (io), H37 IO (io), H38 IO (io), H39 IO (io), J36 IO (io), J37 IO (io), J38 IO (io), J39 IO (io), K36 IO (io), K37 IO (io), K38 IO (io), K39 IO (io), L36 IO_VREF (io), L37 IO (io), L38 IO (io), L39 IO (io), M37 IO (io), M38 IO (io), M39 IO (io), N36 IO_VREF (io), N37 IO (io), N38 IO_VREF (io), N39 IO (io), P36 IO (io), P37 IO (io), P38 IO (io), P39 IO (io), R36 IO (io), R37 IO (io), R38 IO (io), R39 IO (io), T36 IO (io), T37 IO (io), T38 IO (io), T39 IO (io), U35 IO (io), U36 IO_VREF (io), U37 IO (io), U38 IO_VREF (io), U39 IO (io), V35 IO (io), V36 IO (io), V37 IO (io), V38 IO (io), V39 IO (io), W36 IO (io), W37 IO (io), W38 IO (io)
part I pins: A20 GCK3 (in), AU22 GCK1 (in), AW19 GCK0 (in), D21 GCK2 (in)
part J pins: AT5 PROGRAM (in), AT35 M2 (in), AT37 M0 (in), AU5 DONE (io), AU35 DXP, AU38 M1 (in), AV37 DXN, B3 TDI (in), C4 TDO (out), C36 TCK (in), E4 CCLK (io), E36 TMS (in)
part K pins: AD5 VCCINT (power), AD35 VCCINT (power), AE5 VCCINT (power), AE35 VCCINT (power), AF5 VCCO (power), AF35 VCCO (power), AG5 VCCO (power), AG35 VCCO (power), AJ5 VCCO (power), AJ35 VCCO (power), AK5 VCCO (power), AK35 VCCO (power), AL5 VCCINT (power), AL35 VCCINT (power), AM5 VCCINT (power), AM35 VCCINT (power), AN5 VCCO (power), AN35 VCCO (power), AP5 VCCO (power), AP35 VCCO (power), AR6 VCCO (power), AR7 VCCO (power), AR8 VCCINT (power), AR9 VCCINT (power), AR10 VCCO (power), AR11 VCCO (power), AR13 VCCO (power), AR14 VCCO (power), AR15 VCCINT (power), AR16 VCCINT (power), AR24 VCCINT (power), AR25 VCCINT (power), AR26 VCCO (power), AR27 VCCO (power), AR29 VCCO (power), AR30 VCCO (power), AR31 VCCINT (power), AR32 VCCINT (power), AR33 VCCO (power), AR34 VCCO (power), E6 VCCO (power), E7 VCCO (power), E8 VCCINT (power), E9 VCCINT (power), E10 VCCO (power), E11 VCCO (power), E13 VCCO (power), E14 VCCO (power), E15 VCCINT (power), E16 VCCINT (power), E24 VCCINT (power), E25 VCCINT (power), E26 VCCO (power), E27 VCCO (power), E29 VCCO (power), E30 VCCO (power), E31 VCCINT (power), E32 VCCINT (power), E33 VCCO (power), E34 VCCO (power), F5 VCCO (power), F35 VCCO (power), G5 VCCO (power), G35 VCCO (power), H5 VCCINT (power), H35 VCCINT (power), J5 VCCINT (power), J35 VCCINT (power), K5 VCCO (power), K35 VCCO (power), L5 VCCO (power), L35 VCCO (power), N5 VCCO (power), N35 VCCO (power), P5 VCCO (power), P35 VCCO (power), R5 VCCINT (power), R35 VCCINT (power), T5 VCCINT (power), T35 VCCINT (power)
part L pins: A1 GND (power), A2 GND (power), A3 GND (power), A37 GND (power), A38 GND (power), A39 GND (power), AA5 GND (power), AA35 GND (power), AH4 GND (power), AH5 GND (power), AH35 GND (power), AH36 GND (power), AR5 GND (power), AR12 GND (power), AR19 GND (power), AR20 GND (power), AR21 GND (power), AR28 GND (power), AR35 GND (power), AT4 GND (power), AT12 GND (power), AT20 GND (power), AT28 GND (power), AT36 GND (power), AU1 GND (power), AU3 GND (power), AU20 GND (power), AU37 GND (power), AU39 GND (power), AV1 GND (power), AV2 GND (power), AV38 GND (power), AV39 GND (power), AW1 GND (power), AW2 GND (power), AW3 GND (power), AW37 GND (power), AW38 GND (power), AW39 GND (power), B1 GND (power), B2 GND (power), B38 GND (power), B39 GND (power), C1 GND (power), C3 GND (power), C20 GND (power), C37 GND (power), C39 GND (power), D4 GND (power), D12 GND (power), D20 GND (power), D28 GND (power), D36 GND (power), E5 GND (power), E12 GND (power), E19 GND (power), E20 GND (power), E21 GND (power), E28 GND (power), E35 GND (power), M4 GND (power), M5 GND (power), M35 GND (power), M36 GND (power), W5 GND (power), W35 GND (power), Y3 GND (power), Y4 GND (power), Y5 GND (power), Y35 GND (power), Y36 GND (power), Y37 GND (power)
part A text: BANK 0
part B text: BANK 1
part C text: BANK 2
part D text: BANK 3
part E text: BANK 4
part F text: BANK 5
part G text: BANK 6
part H text: BANK 7

## XCV800-4HQ240C
designator U?
Virtex 2.5V FPGA, 166 User I/Os, 240-Pin HQFP, Speed Grade 4, Commercial Grade; DatasheetVersion: Dec-2002; PackageVersion: ver1.2, Jun-2004; PackageReference: HQ240; PackageDescription: 240-Pin Heat Sink Quad Flat Pack (HQ240); Code_JEDEC: MO-143-GA; ComponentLink1Description: Manufacturer URL; ComponentLink1URL: http://www.xilinx.com/; ComponentLink2Description: Virtex Datasheet; ComponentLink2URL: http://www.xilinx.com/support/documentation/data_sheets/ds003.pdf; ComponentLink3Description: HQ240 Package Drawing; ComponentLink3URL: http://www.xilinx.com/support/documentation/package_specs/hq240.pdf; ComponentLink4Description: Virtex Documents; ComponentLink4URL: http://www.xilinx.com/support/documentation/virtex.htm
footprint HQ240_N (Shrink QFP, 240-Leads, Body 32x32mm, Pitch 0.5mm, IPC Medium Density)
footprint HQ240_L (Shrink QFP, 240-Leads, Body 32x32mm, Pitch 0.5mm, IPC High Density)
footprint HQ240_M (Shrink QFP, 240-Leads, Body 32x32mm, Pitch 0.5mm, IPC Low Density)
part A pins: 215 IO_VREF (io), 216 IO (io), 217 IO (io), 218 IO_VREF (io), 220 IO (io), 221 IO (io), 222 IO_VREF (io), 223 IO (io), 224 IO (io), 228 IO (io), 229 IO_VREF (io), 230 IO_VREF (io), 231 IO (io), 232 IO_VREF (io), 234 IO (io), 235 IO (io), 236 IO_VREF (io), 237 IO (io), 238 IO (io)
part B pins: 184 IO_CS (io), 185 IO_WRITE (io), 186 IO (io), 187 IO_VREF (io), 188 IO (io), 189 IO (io), 191 IO_VREF (io), 192 IO (io), 193 IO_VREF (io), 194 IO_VREF (io), 195 IO (io), 199 IO (io), 200 IO (io), 201 IO_VREF (io), 202 IO (io), 203 IO (io), 205 IO_VREF (io), 206 IO (io), 207 IO (io), 208 IO_VREF (io), 209 IO (io)
part C pins: 152 IO (io), 153 IO (io), 154 IO_VREF (io), 155 IO (io), 156 IO_D3 (io), 157 IO_VREF (io), 159 IO (io), 160 IO (io), 161 IO_VREF (io), 162 IO (io), 163 IO_D2 (io), 167 IO_D1 (io), 168 IO_VREF (io), 169 IO_VREF (io), 170 IO (io), 171 IO_VREF (io), 173 IO (io), 174 IO (io), 175 IO_VREF (io), 176 IO (io), 177 IO_DIN_D0 (io), 178 IO_DOUT_BUSY (io)
part D pins: 123 IO_INIT (io), 124 IO_D7 (io), 125 IO (io), 126 IO_VREF (io), 127 IO (io), 128 IO (io), 130 IO_VREF (io), 131 IO (io), 132 IO_VREF (io), 133 IO_VREF (io), 134 IO_D6 (io), 138 IO_D5 (io), 139 IO (io), 140 IO_VREF (io), 141 IO (io), 142 IO (io), 144 IO_VREF (io), 145 IO_D4 (io), 146 IO (io), 147 IO_VREF (io), 149 IO (io)
part E pins: 93 IO (io), 94 IO_VREF (io), 95 IO (io), 96 IO (io), 97 IO_VREF (io), 99 IO (io), 100 IO (io), 101 IO_VREF (io), 102 IO (io), 103 IO (io), 107 IO (io), 108 IO_VREF (io), 109 IO_VREF (io), 110 IO (io), 111 IO_VREF (io), 113 IO (io), 114 IO (io), 115 IO_VREF (io), 116 IO (io), 117 IO (io), 118 IO (io)
part F pins: 63 IO (io), 64 IO (io), 65 IO (io), 66 IO_VREF (io), 67 IO (io), 68 IO (io), 70 IO_VREF (io), 71 IO (io), 72 IO_VREF (io), 73 IO_VREF (io), 74 IO (io), 78 IO (io), 79 IO (io), 80 IO_VREF (io), 81 IO (io), 82 IO (io), 84 IO_VREF (io), 85 IO (io), 86 IO (io), 87 IO_VREF (io)
part G pins: 31 IO (io), 33 IO_VREF (io), 34 IO (io), 35 IO (io), 36 IO_VREF (io), 38 IO (io), 39 IO (io), 40 IO_VREF (io), 41 IO (io), 42 IO (io), 46 IO (io), 47 IO_VREF (io), 48 IO_VREF (io), 49 IO (io), 50 IO_VREF (io), 52 IO (io), 53 IO (io), 54 IO_VREF (io), 55 IO (io), 56 IO (io), 57 IO (io)
part H pins: 3 IO (io), 4 IO (io), 5 IO_VREF (io), 6 IO (io), 7 IO (io), 9 IO_VREF (io), 10 IO (io), 11 IO_VREF (io), 12 IO_VREF (io), 13 IO (io), 17 IO (io), 18 IO (io), 19 IO_VREF (io), 20 IO (io), 21 IO (io), 23 IO_VREF (io), 24 IO (io), 25 IO (io), 26 IO_VREF (io), 27 IO (io), 28 IO (io)
part I pins: 89 GCK1 (in), 92 GCK0 (in), 210 GCK2 (in), 213 GCK3 (in)
part J pins: 2 TMS (in), 58 M1 (in), 60 M0 (in), 62 M2 (in), 120 DONE (io), 122 PROGRAM (in), 179 CCLK (io), 181 TDO (out), 183 TDI (in), 239 TCK (in)
part K pins: 15 VCCO (power), 16 VCCINT (power), 30 VCCO (power), 32 VCCINT (power), 43 VCCINT (power), 44 VCCO (power), 61 VCCO (power), 76 VCCO (power), 77 VCCINT (power), 88 VCCINT (power), 90 VCCO (power), 104 VCCINT (power), 105 VCCO (power), 121 VCCO (power), 136 VCCO (power), 137 VCCINT (power), 148 VCCINT (power), 150 VCCO (power), 164 VCCINT (power), 165 VCCO (power), 180 VCCO (power), 197 VCCO (power), 198 VCCINT (power), 212 VCCO (power), 214 VCCINT (power), 225 VCCINT (power), 226 VCCO (power), 240 VCCO (power)
part L pins: 1 GND (power), 8 GND (power), 14 GND (power), 22 GND (power), 29 GND (power), 37 GND (power), 45 GND (power), 51 GND (power), 59 GND (power), 69 GND (power), 75 GND (power), 83 GND (power), 91 GND (power), 98 GND (power), 106 GND (power), 112 GND (power), 119 GND (power), 129 GND (power), 135 GND (power), 143 GND (power), 151 GND (power), 158 GND (power), 166 GND (power), 172 GND (power), 182 GND (power), 190 GND (power), 196 GND (power), 204 GND (power), 211 GND (power), 219 GND (power), 227 GND (power), 233 GND (power)
part A text: BANK 0
part B text: BANK 1
part C text: BANK 2
part D text: BANK 3
part E text: BANK 4
part F text: BANK 5
part G text: BANK 6
part H text: BANK 7

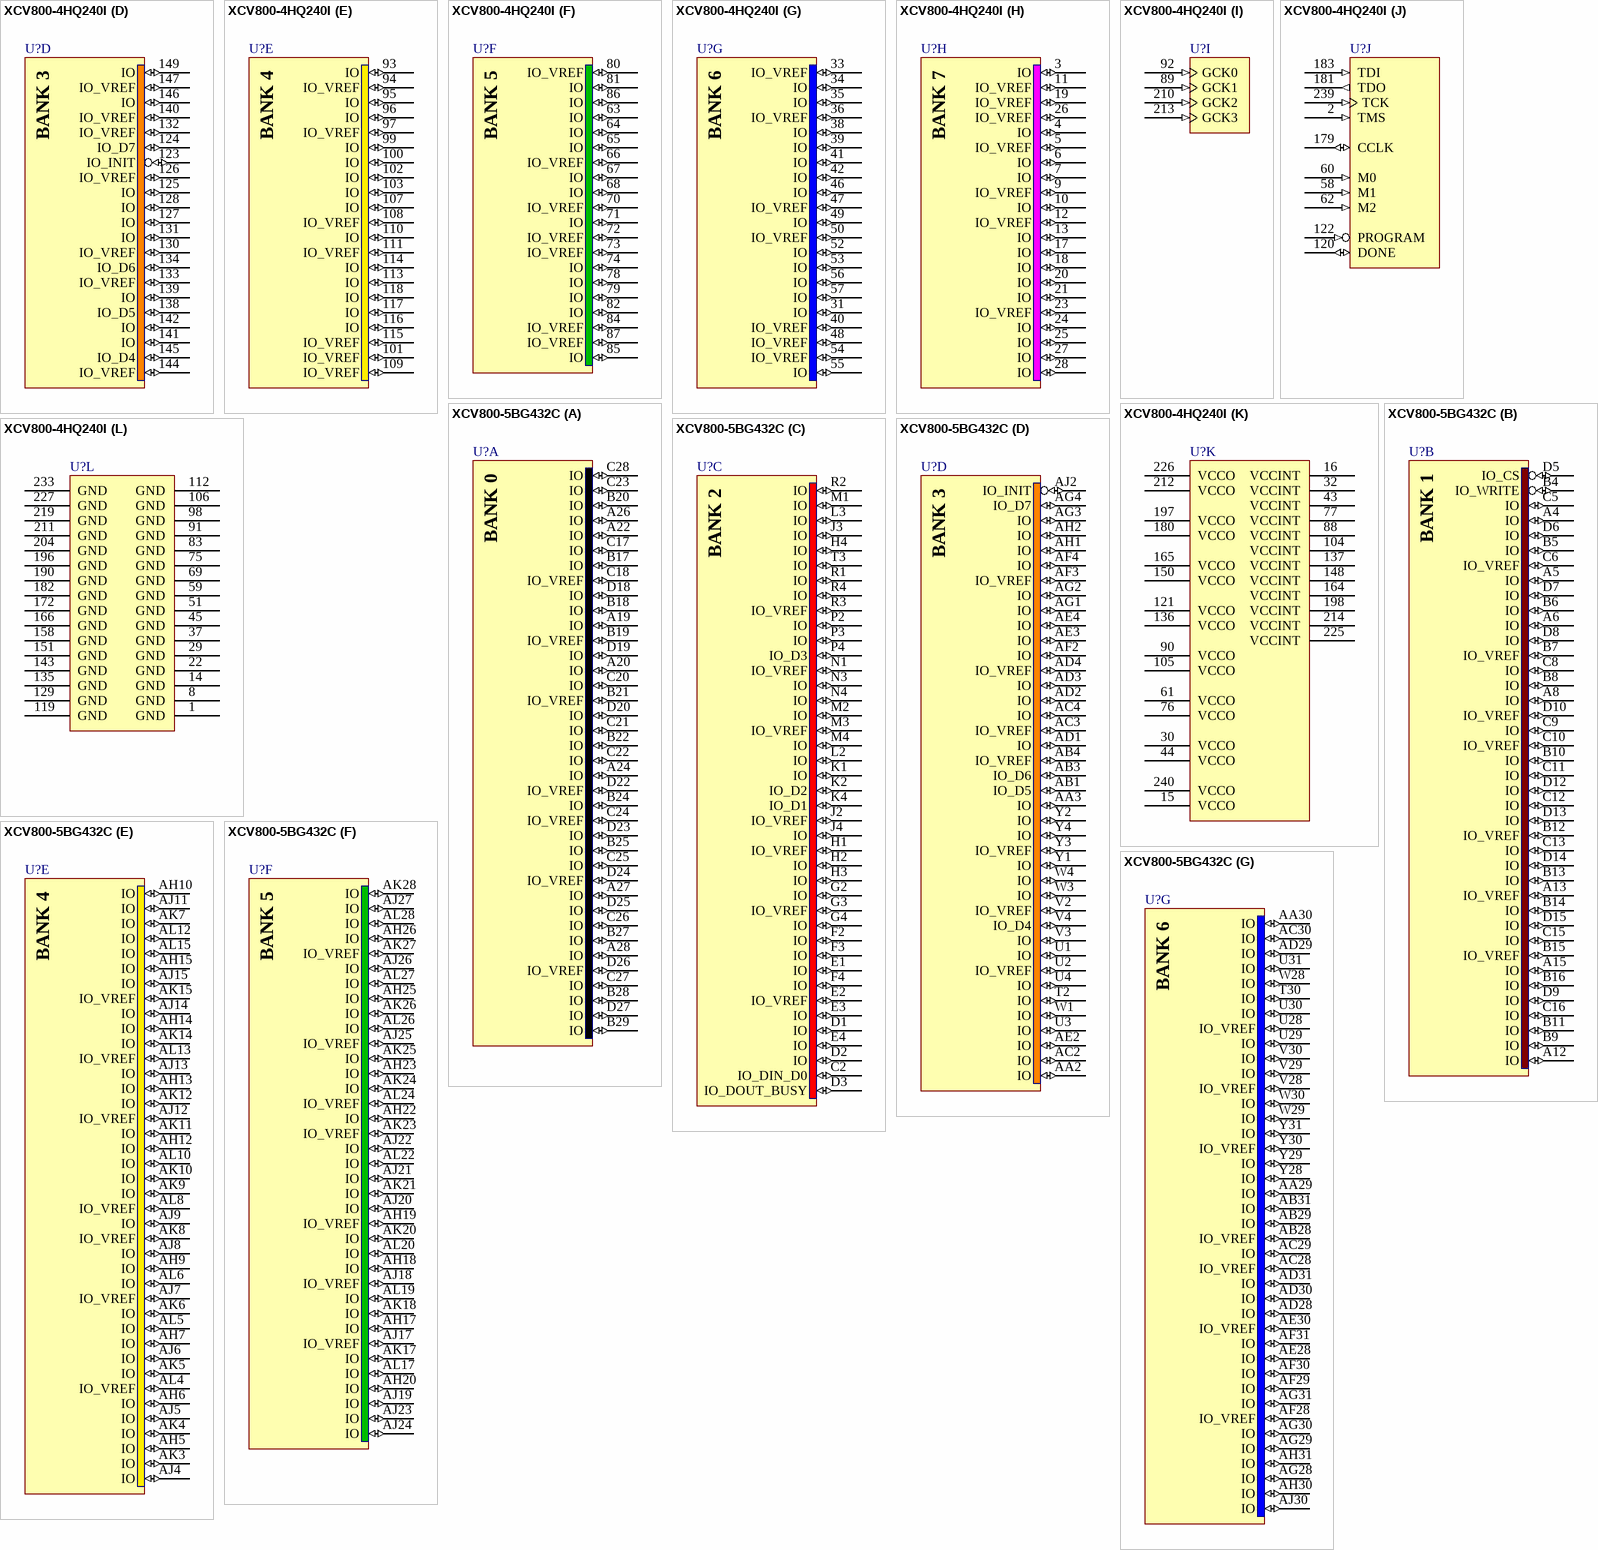
[diagram p174: symbols XCV800-4HQ240I to XCV800-5BG432C]

## XCV800-4HQ240I
designator U?
Virtex 2.5V FPGA, 166 User I/Os, 240-Pin HQFP, Speed Grade 4, Industrial Grade; DatasheetVersion: Dec-2002; PackageVersion: ver1.2, Jun-2004; PackageReference: HQ240; PackageDescription: 240-Pin Heat Sink Quad Flat Pack (HQ240); Code_JEDEC: MO-143-GA; ComponentLink1Description: Manufacturer URL; ComponentLink1URL: http://www.xilinx.com/; ComponentLink2Description: Virtex Datasheet; ComponentLink2URL: http://www.xilinx.com/support/documentation/data_sheets/ds003.pdf; ComponentLink3Description: HQ240 Package Drawing; ComponentLink3URL: http://www.xilinx.com/support/documentation/package_specs/hq240.pdf; ComponentLink4Description: Virtex Documents; ComponentLink4URL: http://www.xilinx.com/support/documentation/virtex.htm
footprint HQ240_N (Shrink QFP, 240-Leads, Body 32x32mm, Pitch 0.5mm, IPC Medium Density)
footprint HQ240_L (Shrink QFP, 240-Leads, Body 32x32mm, Pitch 0.5mm, IPC High Density)
footprint HQ240_M (Shrink QFP, 240-Leads, Body 32x32mm, Pitch 0.5mm, IPC Low Density)
part A pins: 215 IO_VREF (io), 216 IO (io), 217 IO (io), 218 IO_VREF (io), 220 IO (io), 221 IO (io), 222 IO_VREF (io), 223 IO (io), 224 IO (io), 228 IO (io), 229 IO_VREF (io), 230 IO_VREF (io), 231 IO (io), 232 IO_VREF (io), 234 IO (io), 235 IO (io), 236 IO_VREF (io), 237 IO (io), 238 IO (io)
part B pins: 184 IO_CS (io), 185 IO_WRITE (io), 186 IO (io), 187 IO_VREF (io), 188 IO (io), 189 IO (io), 191 IO_VREF (io), 192 IO (io), 193 IO_VREF (io), 194 IO_VREF (io), 195 IO (io), 199 IO (io), 200 IO (io), 201 IO_VREF (io), 202 IO (io), 203 IO (io), 205 IO_VREF (io), 206 IO (io), 207 IO (io), 208 IO_VREF (io), 209 IO (io)
part C pins: 152 IO (io), 153 IO (io), 154 IO_VREF (io), 155 IO (io), 156 IO_D3 (io), 157 IO_VREF (io), 159 IO (io), 160 IO (io), 161 IO_VREF (io), 162 IO (io), 163 IO_D2 (io), 167 IO_D1 (io), 168 IO_VREF (io), 169 IO_VREF (io), 170 IO (io), 171 IO_VREF (io), 173 IO (io), 174 IO (io), 175 IO_VREF (io), 176 IO (io), 177 IO_DIN_D0 (io), 178 IO_DOUT_BUSY (io)
part D pins: 123 IO_INIT (io), 124 IO_D7 (io), 125 IO (io), 126 IO_VREF (io), 127 IO (io), 128 IO (io), 130 IO_VREF (io), 131 IO (io), 132 IO_VREF (io), 133 IO_VREF (io), 134 IO_D6 (io), 138 IO_D5 (io), 139 IO (io), 140 IO_VREF (io), 141 IO (io), 142 IO (io), 144 IO_VREF (io), 145 IO_D4 (io), 146 IO (io), 147 IO_VREF (io), 149 IO (io)
part E pins: 93 IO (io), 94 IO_VREF (io), 95 IO (io), 96 IO (io), 97 IO_VREF (io), 99 IO (io), 100 IO (io), 101 IO_VREF (io), 102 IO (io), 103 IO (io), 107 IO (io), 108 IO_VREF (io), 109 IO_VREF (io), 110 IO (io), 111 IO_VREF (io), 113 IO (io), 114 IO (io), 115 IO_VREF (io), 116 IO (io), 117 IO (io), 118 IO (io)
part F pins: 63 IO (io), 64 IO (io), 65 IO (io), 66 IO_VREF (io), 67 IO (io), 68 IO (io), 70 IO_VREF (io), 71 IO (io), 72 IO_VREF (io), 73 IO_VREF (io), 74 IO (io), 78 IO (io), 79 IO (io), 80 IO_VREF (io), 81 IO (io), 82 IO (io), 84 IO_VREF (io), 85 IO (io), 86 IO (io), 87 IO_VREF (io)
part G pins: 31 IO (io), 33 IO_VREF (io), 34 IO (io), 35 IO (io), 36 IO_VREF (io), 38 IO (io), 39 IO (io), 40 IO_VREF (io), 41 IO (io), 42 IO (io), 46 IO (io), 47 IO_VREF (io), 48 IO_VREF (io), 49 IO (io), 50 IO_VREF (io), 52 IO (io), 53 IO (io), 54 IO_VREF (io), 55 IO (io), 56 IO (io), 57 IO (io)
part H pins: 3 IO (io), 4 IO (io), 5 IO_VREF (io), 6 IO (io), 7 IO (io), 9 IO_VREF (io), 10 IO (io), 11 IO_VREF (io), 12 IO_VREF (io), 13 IO (io), 17 IO (io), 18 IO (io), 19 IO_VREF (io), 20 IO (io), 21 IO (io), 23 IO_VREF (io), 24 IO (io), 25 IO (io), 26 IO_VREF (io), 27 IO (io), 28 IO (io)
part I pins: 89 GCK1 (in), 92 GCK0 (in), 210 GCK2 (in), 213 GCK3 (in)
part J pins: 2 TMS (in), 58 M1 (in), 60 M0 (in), 62 M2 (in), 120 DONE (io), 122 PROGRAM (in), 179 CCLK (io), 181 TDO (out), 183 TDI (in), 239 TCK (in)
part K pins: 15 VCCO (power), 16 VCCINT (power), 30 VCCO (power), 32 VCCINT (power), 43 VCCINT (power), 44 VCCO (power), 61 VCCO (power), 76 VCCO (power), 77 VCCINT (power), 88 VCCINT (power), 90 VCCO (power), 104 VCCINT (power), 105 VCCO (power), 121 VCCO (power), 136 VCCO (power), 137 VCCINT (power), 148 VCCINT (power), 150 VCCO (power), 164 VCCINT (power), 165 VCCO (power), 180 VCCO (power), 197 VCCO (power), 198 VCCINT (power), 212 VCCO (power), 214 VCCINT (power), 225 VCCINT (power), 226 VCCO (power), 240 VCCO (power)
part L pins: 1 GND (power), 8 GND (power), 14 GND (power), 22 GND (power), 29 GND (power), 37 GND (power), 45 GND (power), 51 GND (power), 59 GND (power), 69 GND (power), 75 GND (power), 83 GND (power), 91 GND (power), 98 GND (power), 106 GND (power), 112 GND (power), 119 GND (power), 129 GND (power), 135 GND (power), 143 GND (power), 151 GND (power), 158 GND (power), 166 GND (power), 172 GND (power), 182 GND (power), 190 GND (power), 196 GND (power), 204 GND (power), 211 GND (power), 219 GND (power), 227 GND (power), 233 GND (power)
part A text: BANK 0
part B text: BANK 1
part C text: BANK 2
part D text: BANK 3
part E text: BANK 4
part F text: BANK 5
part G text: BANK 6
part H text: BANK 7

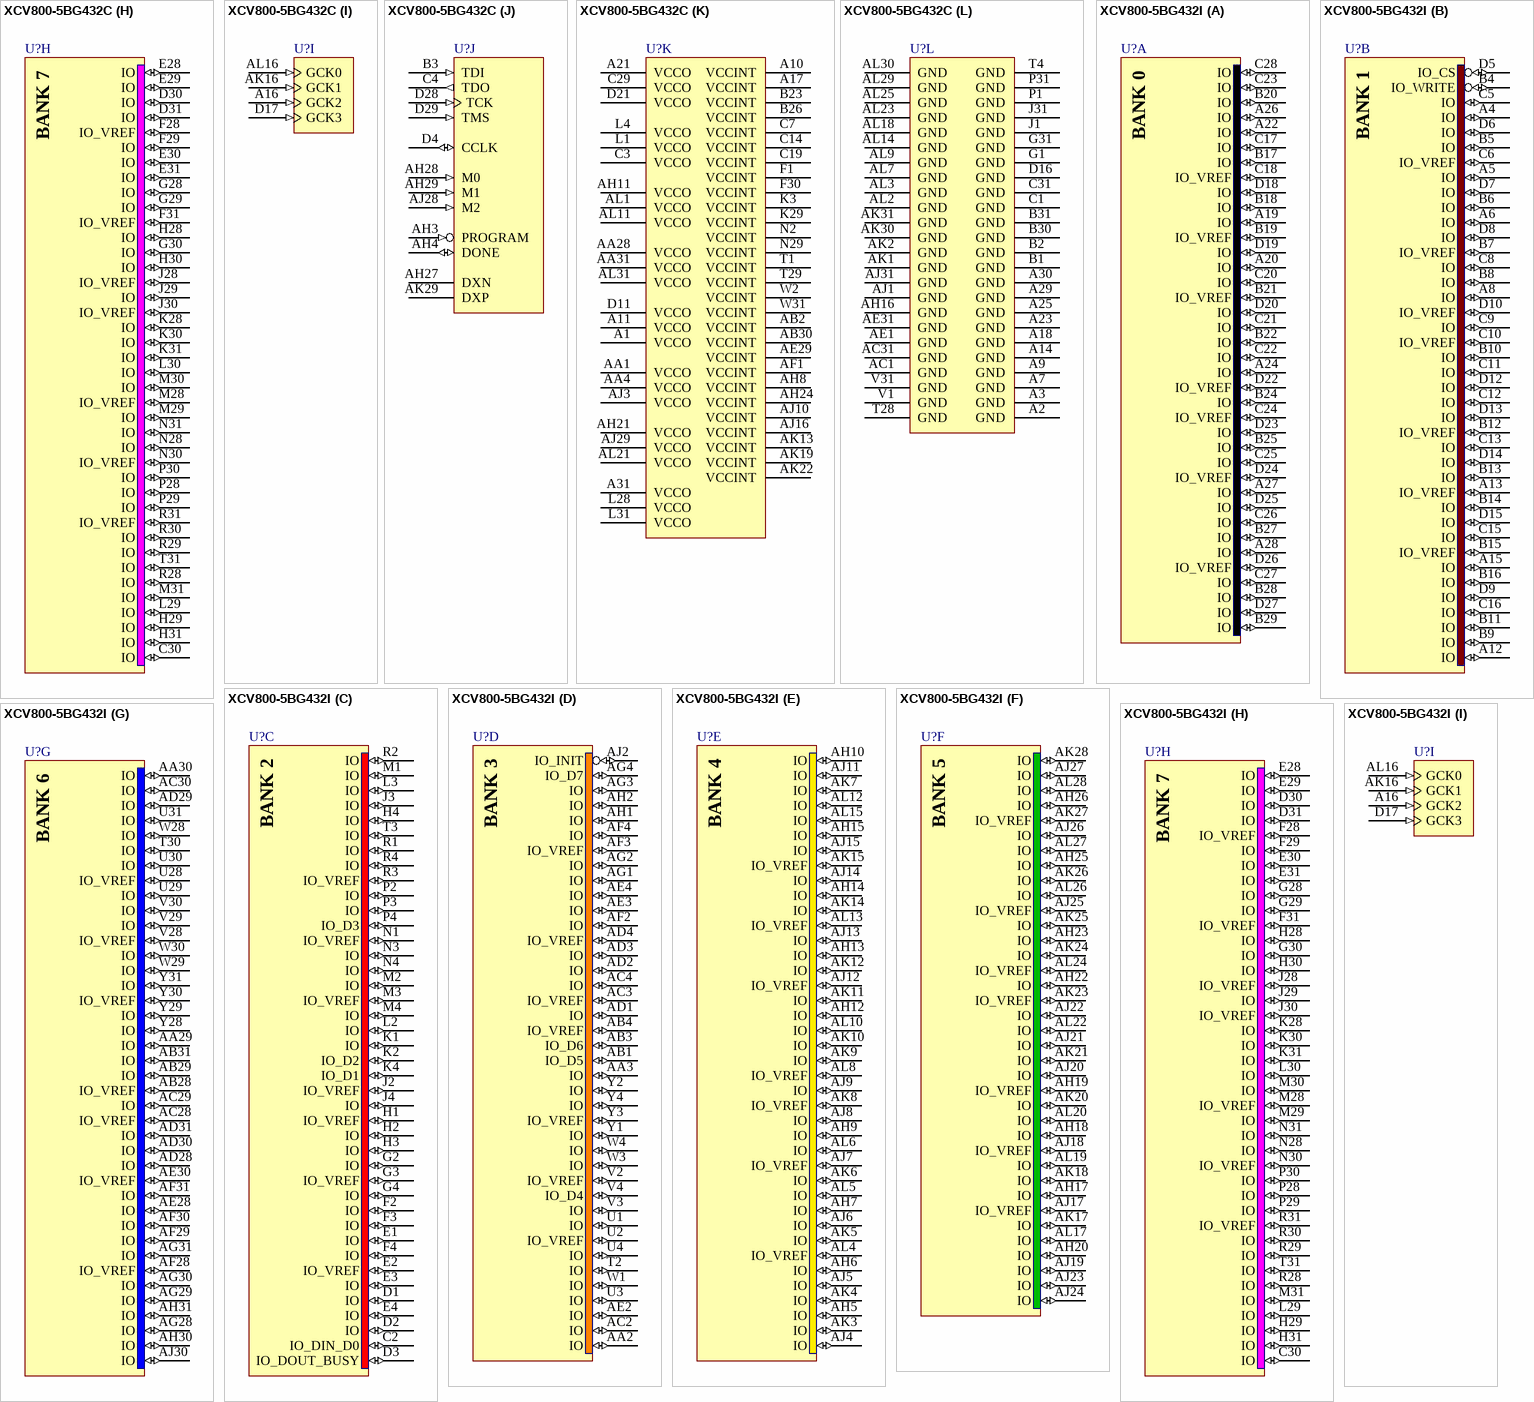
[diagram p175: symbols XCV800-5BG432C to XCV800-5BG432I]